# Altium integrated library CDE_Library.IntLib: 6171 symbols (part 14 of 25)
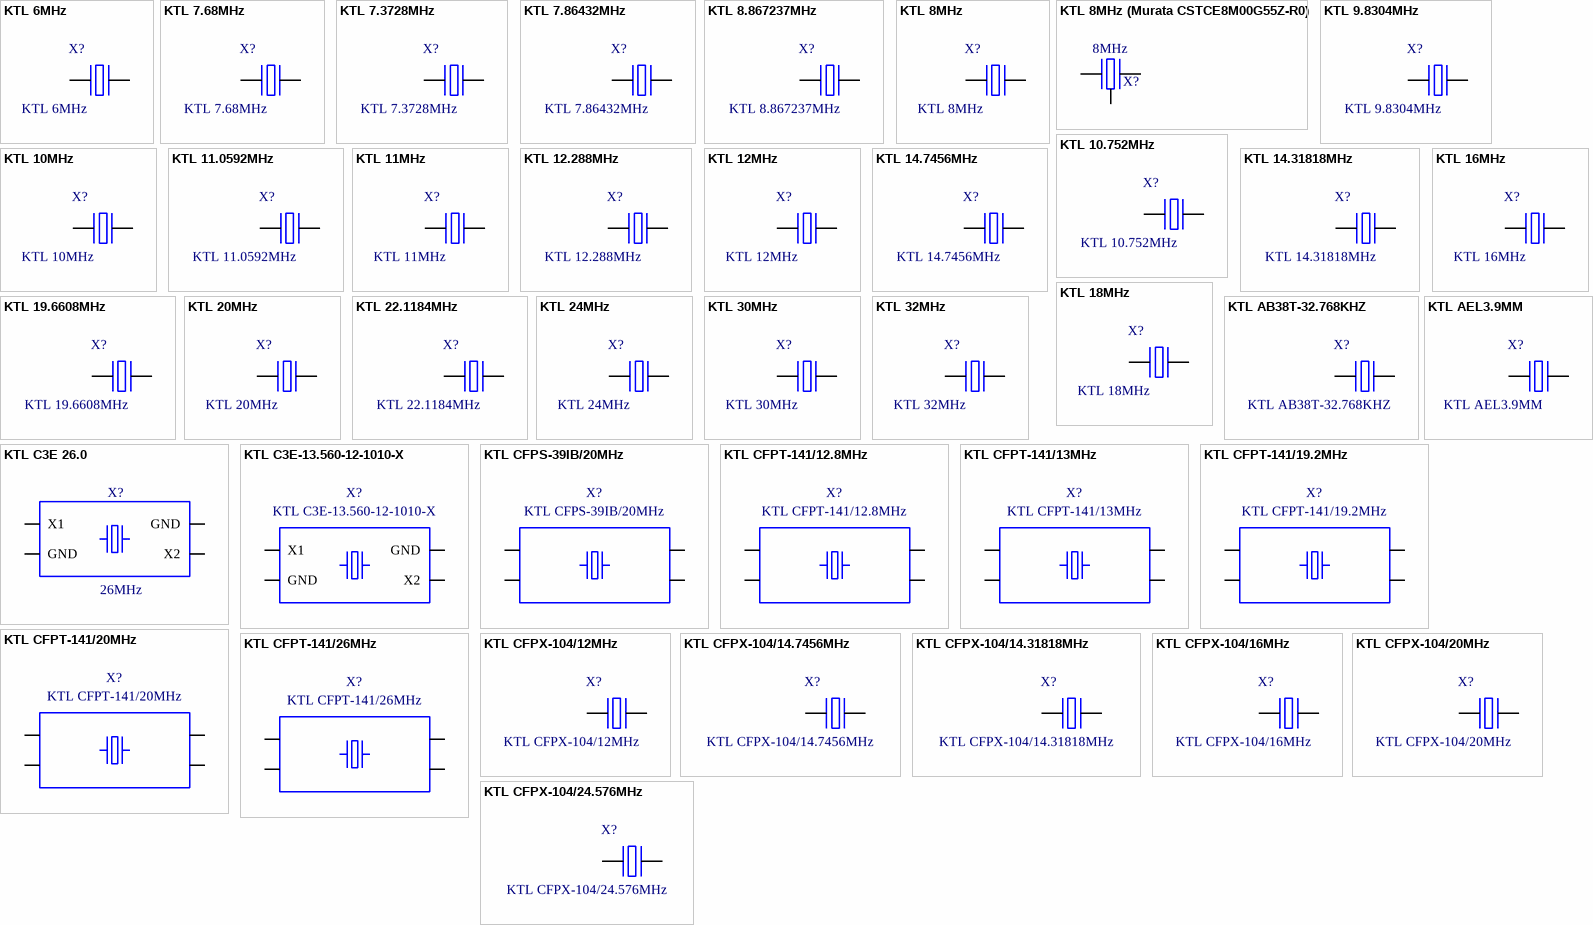
[diagram p270: symbols KTL 6MHz to KTL CFPX-104/24.576MHz]

## KTL CFPX-104/20MHz
designator X?
smd kristal CFPX-104/20MHz; Part Number: KTL CFPX-104/20MHz; Component Kind: Standard; Component Type: Standard; Designator: KTL CFPX-104/20MHz; Footprint: smd kristal CFPX-104; Library Reference: KTL CFPX-104/20MHz; Pin Count: 2
footprint smd kristal CFPX-104
pins: 1, 3

## KTL CFPX-104/24.576MHz
designator X?
smd kristal CFPX-104/24.576MHz; Part Number: KTL CFPX-104/24.576MHz; Component Kind: Standard; Component Type: Standard; Designator: KTL CFPX-104/24.576MHz; Footprint: smd kristal CFPX-104; Library Reference: KTL CFPX-104/24.576MHz; Pin Count: 2
footprint smd kristal CFPX-104
pins: 1, 3

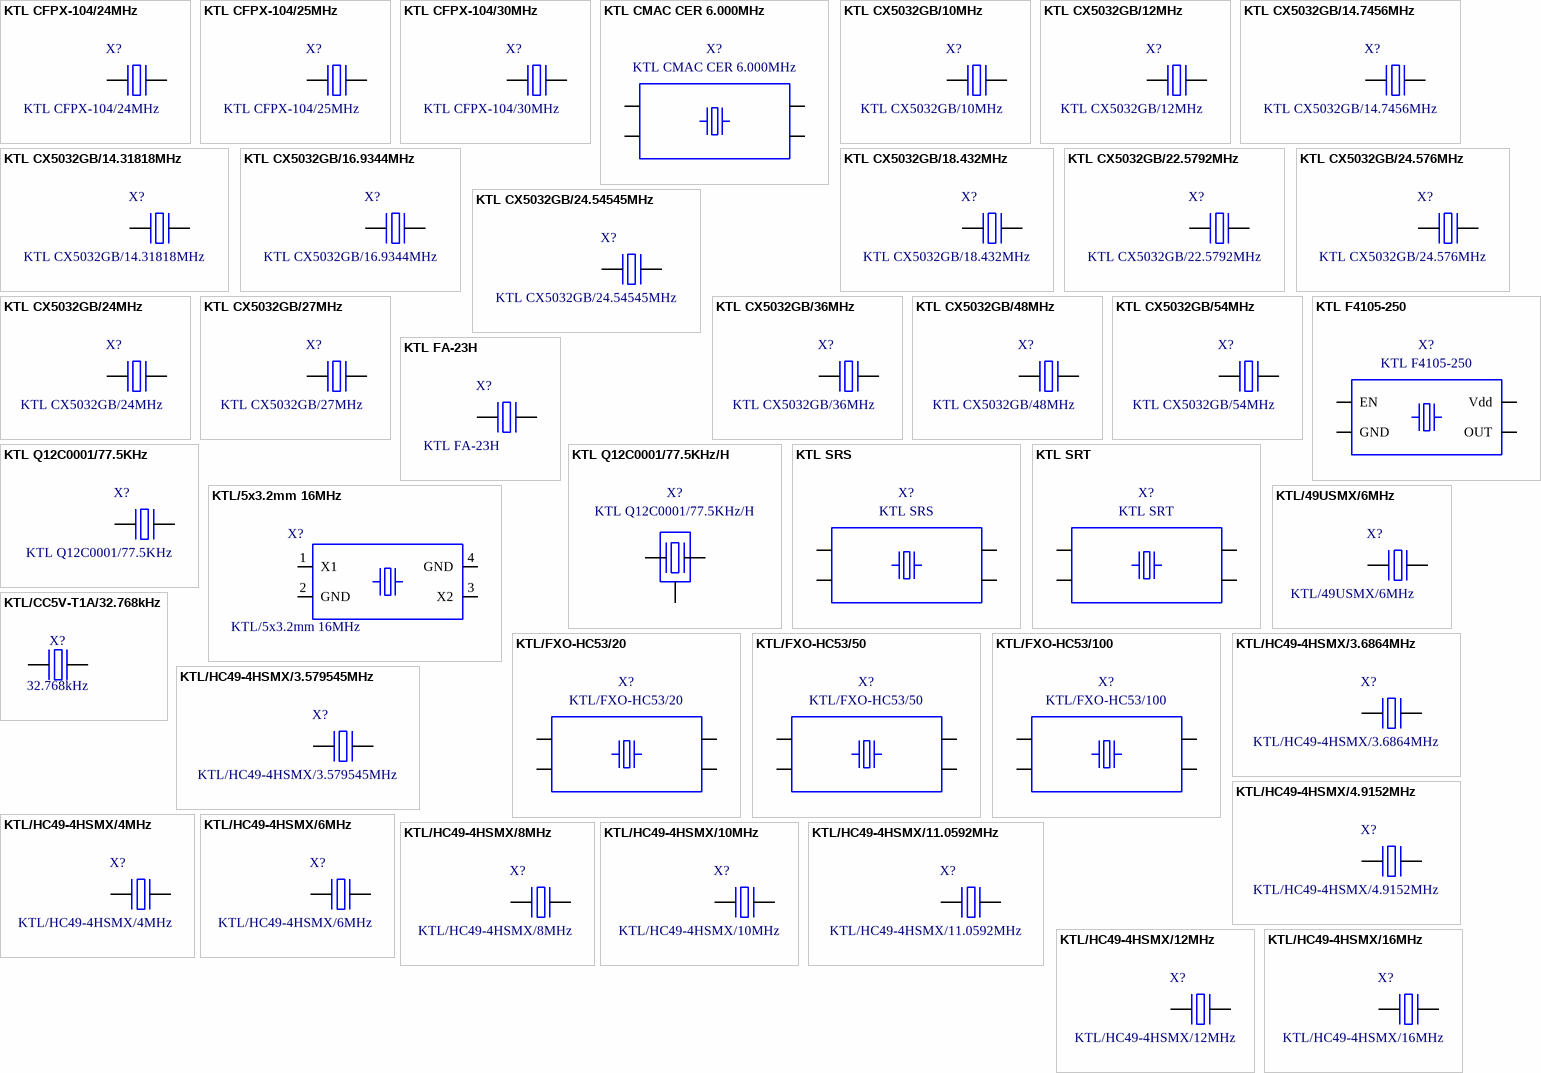
[diagram p135: symbols KTL CFPX-104/24MHz to KTL/HC49-4HSMX/16MHz]

## KTL CFPX-104/24MHz
designator X?
smd kristal CFPX-104/24MHz; Part Number: KTL CFPX-104/24MHz; Component Kind: Standard; Component Type: Standard; Designator: KTL CFPX-104/24MHz; Footprint: smd kristal CFPX-104; Library Reference: KTL CFPX-104/24MHz; Pin Count: 2
footprint smd kristal CFPX-104
pins: 1, 3

## KTL CFPX-104/25MHz
designator X?
smd kristal CFPX-104/25MHz; Part Number: KTL CFPX-104/25MHz; Component Kind: Standard; Component Type: Standard; Designator: KTL CFPX-104/25MHz; Footprint: smd kristal CFPX-104; Library Reference: KTL CFPX-104/25MHz; Pin Count: 2
footprint smd kristal CFPX-104
pins: 1, 3

## KTL CFPX-104/30MHz
designator X?
smd kristal CFPX-104/30MHz; Part Number: KTL CFPX-104/30MHz; Component Kind: Standard; Component Type: Standard; Designator: KTL CFPX-104/30MHz; Footprint: smd kristal CFPX-104; Library Reference: KTL CFPX-104/30MHz; Pin Count: 2
footprint smd kristal CFPX-104
pins: 1, 3

## KTL CMAC CER 6.000MHz
designator X?
smd kristal CMAC CER 5x7mm
footprint smd kristal 5x7mm (CMAC CERxx)
pins: 1 VCXO, 2 GND, 3 OUT, 4 Vs

## KTL CX5032GB/10MHz
designator X?
kristal CX5032GB, 10MHz
footprint smd kristal CX-53F
pins: 1, 2

## KTL CX5032GB/12MHz
designator X?
kristal CX5032GB, 12MHz; Part Number: KTL CX5032GB/12MHz; Component Kind: Standard; Component Type: Standard; Designator: KTL CX5032GB/12MHz; Footprint: smd kristal CX-53F; Library Reference: KTL CX5032GB/12MHz; Pin Count: 2
footprint smd kristal CX-53F
pins: 1, 2

## KTL CX5032GB/14.7456MHz
designator X?
kristal CX5032GB, 14.7456MHz; Part Number: KTL CX5032GB/14.7456MHz; Component Kind: Standard; Component Type: Standard; Designator: KTL CX5032GB/14.7456MHz; Footprint: smd kristal CX-53F; Library Reference: KTL CX5032GB/14.7456MHz; Pin Count: 2
footprint smd kristal CX-53F
pins: 1, 2

## KTL CX5032GB/14.31818MHz
designator X?
kristal CX5032GB, 14.31818MHz; Part Number: KTL CX5032GB/14.31818MHz; Component Kind: Standard; Component Type: Standard; Designator: KTL CX5032GB/14.31818MHz; Footprint: smd kristal CX-53F; Library Reference: KTL CX5032GB/14.31818MHz; Pin Count: 2
footprint smd kristal CX-53F
pins: 1, 2

## KTL CX5032GB/16.9344MHz
designator X?
kristal CX5032GB, 16.9344MHz; Part Number: KTL CX5032GB/16.9344MHz; Component Kind: Standard; Component Type: Standard; Designator: KTL CX5032GB/16.9344MHz; Footprint: smd kristal CX-53F; Library Reference: KTL CX5032GB/16.9344MHz; Pin Count: 2
footprint smd kristal CX-53F
pins: 1, 2

## KTL CX5032GB/18.432MHz
designator X?
kristal CX5032GB, 18.432MHz; Part Number: KTL CX5032GB/18.432MHz; Component Kind: Standard; Component Type: Standard; Designator: KTL CX5032GB/18.432MHz; Footprint: smd kristal CX-53F; Library Reference: KTL CX5032GB/18.432MHz; Pin Count: 2
footprint smd kristal CX-53F
pins: 1, 2

## KTL CX5032GB/22.5792MHz
designator X?
kristal CX5032GB, 22.5792MHz; Part Number: KTL CX5032GB/22.5792MHz; Component Kind: Standard; Component Type: Standard; Designator: KTL CX5032GB/22.5792MHz; Footprint: smd kristal CX-53F; Library Reference: KTL CX5032GB/22.5792MHz; Pin Count: 2
footprint smd kristal CX-53F
pins: 1, 2

## KTL CX5032GB/24.576MHz
designator X?
kristal CX5032GB, 24.576MHz; Part Number: KTL CX5032GB/24.576MHz; Component Kind: Standard; Component Type: Standard; Designator: KTL CX5032GB/24.576MHz; Footprint: smd kristal CX-53F; Library Reference: KTL CX5032GB/24.576MHz; Pin Count: 2
footprint smd kristal CX-53F
pins: 1, 2

## KTL CX5032GB/24.54545MHz
designator X?
kristal CX5032GB, 24.54545MHz; Part Number: KTL CX5032GB/24.54545MHz; Component Kind: Standard; Component Type: Standard; Designator: KTL CX5032GB/24.54545MHz; Footprint: smd kristal CX-53F; Library Reference: KTL CX5032GB/24.54545MHz; Pin Count: 2
footprint smd kristal CX-53F
pins: 1, 2

## KTL CX5032GB/24MHz
designator X?
kristal CX5032GB, 24MHz; Part Number: KTL CX5032GB/24MHz; Component Kind: Standard; Component Type: Standard; Designator: KTL CX5032GB/24MHz; Footprint: smd kristal CX-53F; Library Reference: KTL CX5032GB/24MHz; Pin Count: 2
footprint smd kristal CX-53F
pins: 1, 2

## KTL CX5032GB/27MHz
designator X?
kristal CX5032GB, 27MHz; Part Number: KTL CX5032GB/27MHz; Component Kind: Standard; Component Type: Standard; Designator: KTL CX5032GB/27MHz; Footprint: smd kristal CX-53F; Library Reference: KTL CX5032GB/27MHz; Pin Count: 2
footprint smd kristal CX-53F
pins: 1, 2

## KTL CX5032GB/36MHz
designator X?
kristal CX5032GB, 36MHz; Part Number: KTL CX5032GB/36MHz; Component Kind: Standard; Component Type: Standard; Designator: KTL CX5032GB/36MHz; Footprint: smd kristal CX-53F; Library Reference: KTL CX5032GB/36MHz; Pin Count: 2
footprint smd kristal CX-53F
pins: 1, 2

## KTL CX5032GB/48MHz
designator X?
kristal CX5032GB, 48MHz; Part Number: KTL CX5032GB/48MHz; Component Kind: Standard; Component Type: Standard; Designator: KTL CX5032GB/48MHz; Footprint: smd kristal CX-53F; Library Reference: KTL CX5032GB/48MHz; Pin Count: 2
footprint smd kristal CX-53F
pins: 1, 2

## KTL CX5032GB/54MHz
designator X?
kristal CX5032GB, 54MHz; Part Number: KTL CX5032GB/54MHz; Component Kind: Standard; Component Type: Standard; Designator: KTL CX5032GB/54MHz; Footprint: smd kristal CX-53F; Library Reference: KTL CX5032GB/54MHz; Pin Count: 2
footprint smd kristal CX-53F
pins: 1, 2

## KTL F4105-250
designator X?
smd kristaloscillator Fox Electronics F4100 series 25MHz
footprint smd KTL 7.5x5
pins: 1 EN, 2 GND, 3 OUT, 4 Vdd

## KTL FA-23H
designator X?
thin smd high-stability crystal unit
footprint smd kristal 1
pins: 1, 3

## KTL Q12C0001/77.5KHz
designator X?
kristal Epson Toyocom, type Q12C0001, 77.5KHz
footprint kristal (Epson Toyocom C2 type)
pins: 1, 2

## KTL Q12C0001/77.5KHz/H
designator X?
kristal Epson Toyocom, type Q12C0001, 77.5KHz, liggend
footprint kristal (Epson Toyocom C2 type - liggend)
pins: 1, 2, 3

## KTL SRS
designator X?
Suntsu SRS series kristal; Part Number: KTL SRS; Component Kind: Standard; Component Type: Standard; Designator: KTL SRS; Footprint: smd kristal 4 (SUNTSU SRS); Library Reference: KTL SRS; Pin Count: 4
footprint smd kristal 4 (SUNTSU SRS)
pins: 1 Tri-State, 2 GND, 3 Vout, 4 Vin

## KTL SRT
designator X?
Suntsu SRT series kristal; Part Number: KTL SRT; Component Kind: Standard; Component Type: Standard; Designator: KTL SRT; Footprint: smd kristal 5 (SUNTSU SRT); Library Reference: KTL SRT; Pin Count: 4
footprint smd kristal 5 (SUNTSU SRT)
pins: 1 Tri-State, 2 GND, 3 Vout, 4 Vin

## KTL/5x3.2mm 16MHz
designator X?
TXC Xtal 16.000 MHz, 5x3.2mm; Part Number: KTL/5x3.2mm 16MHz; Component Kind: Standard; Component Type: Standard; Designator: KTL/5x3.2mm 16MHz; Footprint: smd KTL 5x3.2; Library Reference: KTL/5x3.2mm 16MHz; Pin Count: 4
footprint smd KTL 5x3.2
pins: 1 X1, 2 GND, 3 X2, 4 GND

## KTL/49USMX/6MHz
designator X?
kristal 6MHz, verpakking 49USMX
footprint smd HC49/4HSMX
pins: 1, 2

## KTL/CC5V-T1A/32.768kHz
designator X?, comment 32.768kHz
kristal 32.768kHz
footprint smd CC5V-T1A (kristal smd)
pins: 1, 2

## KTL/FXO-HC53/20
designator X?
Xpresso Xtal oscillator 20 MHz
footprint smd kristal 5 (XpressO FXO-HC53 series)
pins: 1 E/D, 2 GND, 3 Out, 4 VDD

## KTL/FXO-HC53/50
designator X?
Xpresso Xtal oscillator 50 MHz; Part Number: KTL/FXO-HC53/50; Component Kind: Standard; Component Type: Standard; Designator: KTL/FXO-HC53/50; Footprint: smd kristal 5 (XpressO FXO-HC53 series); Library Reference: KTL/FXO-HC53/50; Pin Count: 4
footprint smd kristal 5 (XpressO FXO-HC53 series)
pins: 1 E/D, 2 GND, 3 Out, 4 VDD

## KTL/FXO-HC53/100
designator X?
Xpresso Xtal oscillator 100 MHz; Part Number: KTL/FXO-HC53/100; Component Kind: Standard; Component Type: Standard; Designator: KTL/FXO-HC53/100; Footprint: smd kristal 5 (XpressO FXO-HC53 series); Library Reference: KTL/FXO-HC53/100; Pin Count: 4
footprint smd kristal 5 (XpressO FXO-HC53 series)
pins: 1 E/D, 2 GND, 3 Out, 4 VDD

## KTL/HC49-4HSMX/3.6864MHz
designator X?
kristal 3.6864MHz, verpakking HC49-4HSMX; Part Number: KTL/HC49-4HSMX/3.6864MHz; Component Kind: Standard; Component Type: Standard; Designator: KTL/HC49-4HSMX/3.6864MHz; Footprint: smd HC49/4HSMX; Library Reference: KTL/HC49-4HSMX/3.6864MHz; Pin Count: 2
footprint smd HC49/4HSMX
pins: 1, 2

## KTL/HC49-4HSMX/3.579545MHz
designator X?
kristal 3.579545MHz, verpakking HC49-4HSMX; Part Number: KTL/HC49-4HSMX/3.579545MHz; Component Kind: Standard; Component Type: Standard; Designator: KTL/HC49-4HSMX/3.579545MHz; Footprint: smd HC49/4HSMX; Library Reference: KTL/HC49-4HSMX/3.579545MHz; Pin Count: 2
footprint smd HC49/4HSMX
pins: 1, 2

## KTL/HC49-4HSMX/4.9152MHz
designator X?
kristal 4.9152MHz, verpakking HC49-4HSMX; Part Number: KTL/HC49-4HSMX/4.9152MHz; Component Kind: Standard; Component Type: Standard; Designator: KTL/HC49-4HSMX/4.9152MHz; Footprint: smd HC49/4HSMX; Library Reference: KTL/HC49-4HSMX/4.9152MHz; Pin Count: 2
footprint smd HC49/4HSMX
pins: 1, 2

## KTL/HC49-4HSMX/4MHz
designator X?
kristal 4MHz, verpakking HC49-4HSMX; Part Number: KTL/HC49-4HSMX/4MHz; Component Kind: Standard; Component Type: Standard; Designator: KTL/HC49-4HSMX/4MHz; Footprint: smd HC49/4HSMX; Library Reference: KTL/HC49-4HSMX/4MHz; Pin Count: 2
footprint smd HC49/4HSMX
pins: 1, 2

## KTL/HC49-4HSMX/6MHz
designator X?
kristal 6MHz, verpakking HC49-4HSMX; Part Number: KTL/HC49-4HSMX/6MHz; Component Kind: Standard; Component Type: Standard; Designator: KTL/HC49-4HSMX/6MHz; Footprint: smd HC49/4HSMX; Library Reference: KTL/HC49-4HSMX/6MHz; Pin Count: 2
footprint smd HC49/4HSMX
pins: 1, 2

## KTL/HC49-4HSMX/8MHz
designator X?
kristal 8MHz, verpakking HC49-4HSMX; Part Number: KTL/HC49-4HSMX/8MHz; Component Kind: Standard; Component Type: Standard; Designator: KTL/HC49-4HSMX/8MHz; Footprint: smd HC49/4HSMX; Library Reference: KTL/HC49-4HSMX/8MHz; Pin Count: 2
footprint smd HC49/4HSMX
pins: 1, 2

## KTL/HC49-4HSMX/10MHz
designator X?
kristal 10MHz, verpakking HC49-4HSMX
footprint smd HC49/4HSMX
pins: 1, 2

## KTL/HC49-4HSMX/11.0592MHz
designator X?
kristal 11.0592MHz, verpakking HC49-4HSMX; Part Number: KTL/HC49-4HSMX/11.0592MHz; Component Kind: Standard; Component Type: Standard; Designator: KTL/HC49-4HSMX/11.0592MHz; Footprint: smd HC49/4HSMX; Library Reference: KTL/HC49-4HSMX/11.0592MHz; Pin Count: 2
footprint smd HC49/4HSMX
pins: 1, 2

## KTL/HC49-4HSMX/12MHz
designator X?
kristal 12MHz, verpakking HC49-4HSMX; Part Number: KTL/HC49-4HSMX/12MHz; Component Kind: Standard; Component Type: Standard; Designator: KTL/HC49-4HSMX/12MHz; Footprint: smd HC49/4HSMX; Library Reference: KTL/HC49-4HSMX/12MHz; Pin Count: 2
footprint smd HC49/4HSMX
pins: 1, 2

## KTL/HC49-4HSMX/16MHz
designator X?
kristal 16MHz, verpakking HC49-4HSMX; Part Number: KTL/HC49-4HSMX/16MHz; Component Kind: Standard; Component Type: Standard; Designator: KTL/HC49-4HSMX/16MHz; Footprint: smd HC49/4HSMX; Library Reference: KTL/HC49-4HSMX/16MHz; Pin Count: 2
footprint smd HC49/4HSMX
pins: 1, 2

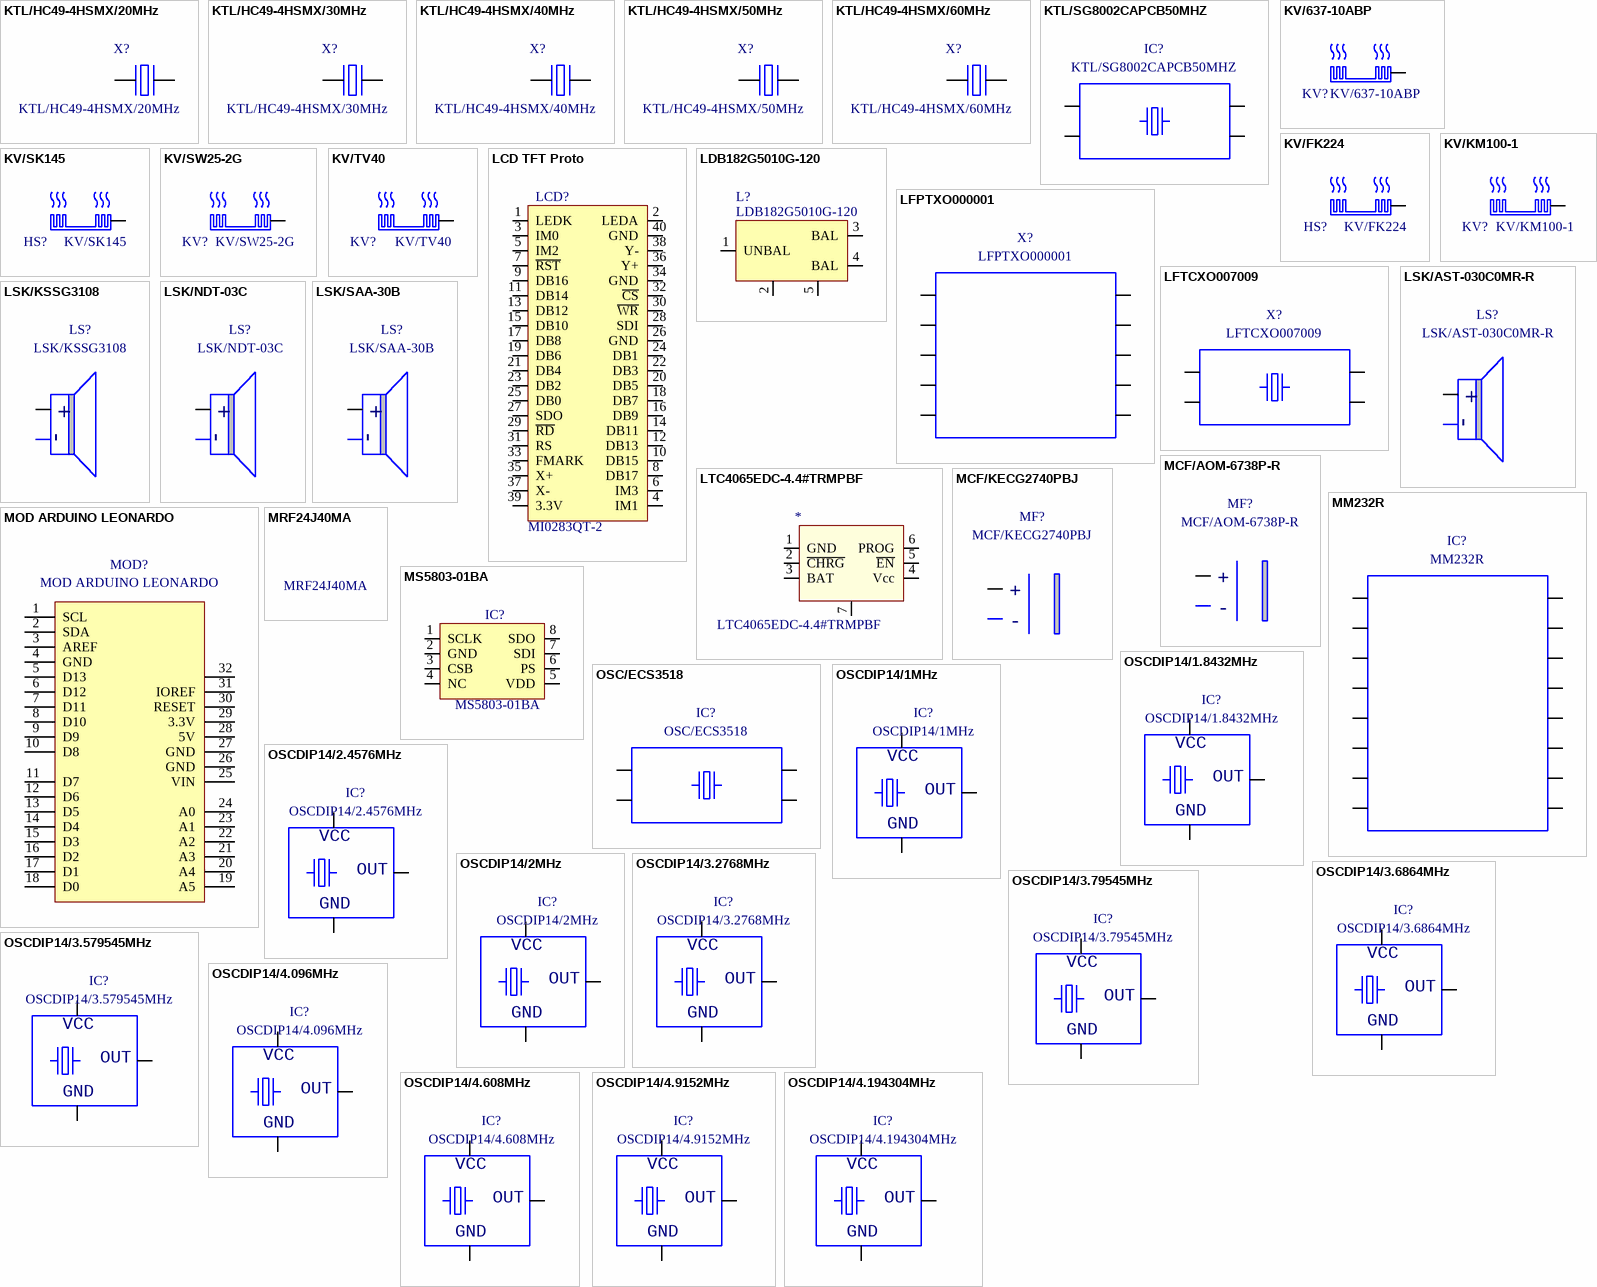
[diagram p136: symbols KTL/HC49-4HSMX/20MHz to OSCDIP14/4.194304MHz]

## KTL/HC49-4HSMX/20MHz
designator X?
kristal 20MHz, verpakking HC49-4HSMX; Part Number: KTL/HC49-4HSMX/20MHz; Component Kind: Standard; Component Type: Standard; Designator: KTL/HC49-4HSMX/20MHz; Footprint: smd HC49/4HSMX; Library Reference: KTL/HC49-4HSMX/20MHz; Pin Count: 2
footprint smd HC49/4HSMX
pins: 1, 2

## KTL/HC49-4HSMX/30MHz
designator X?
kristal 30MHz, verpakking HC49-4HSMX; Part Number: KTL/HC49-4HSMX/30MHz; Component Kind: Standard; Component Type: Standard; Designator: KTL/HC49-4HSMX/30MHz; Footprint: smd HC49/4HSMX; Library Reference: KTL/HC49-4HSMX/30MHz; Pin Count: 2
footprint smd HC49/4HSMX
pins: 1, 2

## KTL/HC49-4HSMX/40MHz
designator X?
kristal 40MHz, verpakking HC49-4HSMX; Part Number: KTL/HC49-4HSMX/40MHz; Component Kind: Standard; Component Type: Standard; Designator: KTL/HC49-4HSMX/40MHz; Footprint: smd HC49/4HSMX; Library Reference: KTL/HC49-4HSMX/40MHz; Pin Count: 2
footprint smd HC49/4HSMX
pins: 1, 2

## KTL/HC49-4HSMX/50MHz
designator X?
kristal 50MHz, verpakking HC49-4HSMX; Part Number: KTL/HC49-4HSMX/50MHz; Component Kind: Standard; Component Type: Standard; Designator: KTL/HC49-4HSMX/50MHz; Footprint: smd HC49/4HSMX; Library Reference: KTL/HC49-4HSMX/50MHz; Pin Count: 2
footprint smd HC49/4HSMX
pins: 1, 2

## KTL/HC49-4HSMX/60MHz
designator X?
kristal 60MHz, verpakking HC49-4HSMX; Part Number: KTL/HC49-4HSMX/60MHz; Component Kind: Standard; Component Type: Standard; Designator: KTL/HC49-4HSMX/60MHz; Footprint: smd HC49/4HSMX; Library Reference: KTL/HC49-4HSMX/60MHz; Pin Count: 2
footprint smd HC49/4HSMX
pins: 1, 2

## KTL/SG8002CAPCB50MHZ
designator IC?
kristal smd SG8002CA, 50MHZ
footprint smd kristal 3
pins: 1 OE, 2 GND, 3 OUT, 4 VDD

## KV/637-10ABP
designator KV?
koelvin Wakefield Engineering 637-10ABP
footprint koelvin TO-220/126 (Wkefld.Eng.637-10ABP)
pins: 1

## KV/FK224
designator HS?
koelvin Fisher Elektronik FK224
footprint koelvin TO-220/126 (Fischer Elek. FK224)
pins: 1

## KV/KM100-1
designator KV?
Koelvin Aavid Thernalloy TO-247 2.9°c/W KM100-1
footprint koelvin TO-247 2.9°c/W (Aavid Thermalloy KM100-1)
pins: 1

## KV/SK145
designator HS?
koelvin Fisher Elektronik SK145
footprint koelvin TO-220 (Fischer Elek. SK145)
pins: 1

## KV/SW25-2G
designator KV?
koelvin Aavid Thermalloy SW25-2G
footprint koelvin TO-220/218/247 (Aavid Thermalloy SW25-2G)
pins: 1

## KV/TV40
designator KV?
koelvin AAVID THERMALLOY TV40
footprint koelvin TO-220/126 (Redpoint 437914 TV40)
pins: 1

## LCD TFT Proto
designator LCD?, comment MI0283QT-2
MikroElektronica TFT Proto board (MI0283QT-2 )
footprint LCD TFT Proto (MikroE TFT proto development board)
pins: 1 LEDK, 2 LEDA, 3 IM0, 4 IM1, 5 IM2, 6 IM3, 7 ~{RST}, 8 DB17, 9 DB16, 10 DB15, 11 DB14, 12 DB13, 13 DB12, 14 DB11, 15 DB10, 16 DB9, 17 DB8, 18 DB7, 19 DB6, 20 DB5, 21 DB4, 22 DB3, 23 DB2, 24 DB1, 25 DB0, 26 GND, 27 SDO, 28 SDI, 29 ~{RD}, 30 ~{WR}, 31 RS, 32 ~{CS}, 33 FMARK, 34 GND, 35 X+, 36 Y+, 37 X-, 38 Y-, 39 3.3V, 40 GND

## LDB182G5010G-120
designator L?
Chip multilayer Hybrid Balun
footprint smd LDB18
pins: 1 UNBAL, 2, 3 BAL, 4 BAL, 5

## LFPTXO000001
designator X?
smd kristaloscillator LFPTXO000001 10MHz
footprint smd kristal CFPT-9000
pins: 1 VREF, 2 NC, 3 DCCPLDO, 4 GND, 5 OUT, 6 NC, 7 NC, 8 TSC, 9 +VS, 10 VTGC

## LFTCXO007009
designator X?
smd kristaloscillator LFTCXO007009  26MHz
footprint smd kristal CFPX-104
pins: 1, 2 GND, 3 OUT, 4 +VS

## LSK/AST-030C0MR-R
designator LS?
luidspreker, Projects Unlimited, AST-030C0MR-R
footprint LSK/AST-030C0MR-R (Projects Unlimited)
pins: 1, 2
text: +; -

## LSK/KSSG3108
designator LS?
luidspreker, Kingstate KSSG3108
footprint LSK/KSSG3108 (Kingstate)
pins: 1, 2
text: +; -

## LSK/NDT-03C
designator LS?
luidspreker smd, Star Micronics, NDT-03C
footprint smd luidspreker NDT-03C (Star Micronics)
pins: 1, 2
text: +; -

## LSK/SAA-30B
designator LS?
luidspreker, Star Micronics, SAA-30B
footprint LSK/SAA-30B (Star Micronics)
pins: 1, 2
text: +; -

## LTC4065EDC-4.4#TRMPBF
designator *
Part Number: LTC4065EDC-4.4#TRMPBF; Component Kind: Standard; Component Type: Standard; Designator: LTC4065EDC-4.4#TRMPBF; Footprint: smd DFN/6 (2x2mm p0.50mm); Library Reference: LTC4065EDC-4.4#TRMPBF; Pin Count: 7
footprint smd DFN/6 (2x2mm p0.50mm)
pins: 1 GND, 2 ~{CHRG}, 3 BAT, 4 Vcc, 5 ~{EN}, 6 PROG, 7 GND

## MCF/AOM-6738P-R
designator MF?
microfoon, Projects Unlimited, AOM-6738P-R
footprint microfoon (AOM-6738P-R)
pins: 1, 2
text: +; -

## MCF/KECG2740PBJ
designator MF?
microfoon, Kingstate KECG2740PBJ
footprint microfoon KECG2740PBJ (Kingstate)
pins: 1, 2
text: +; -

## MM232R
designator IC?
usb module
footprint usbmodule MM232R (FTDI)
pins: 1 SHLD, 2 VCC, 3 VCCIO, 4 VCC30, 5 TXD, 6 RTS#, 7 RXD, 8 CTS#, 9 CLK12M, 10 SLEEP#, 11 RESET#, 12 PWREN, 13 GND, 14 VCC50, 15 USBPWR, 16 SHLD

## MOD ARDUINO LEONARDO
designator MOD?
module Arduino Leonardo
footprint MOD ARDUINO LEONARDO
pins: 1 SCL, 2 SDA, 3 AREF, 4 GND (power), 5 D13, 6 D12, 7 D11, 8 D10, 9 D9, 10 D8, 11 D7, 12 D6, 13 D5, 14 D4, 15 D3, 16 D2, 17 D1, 18 D0, 19 A5, 20 A4, 21 A3, 22 A2, 23 A1, 24 A0, 25 VIN, 26 GND (power), 27 GND (power), 28 5V (power), 29 3.3V (power), 30 RESET, 31 IOREF, 32

## MRF24J40MA
designator ?
Microchip Zigbee transceiver module

## MS5803-01BA
designator IC?
Miniature Variometer Module
footprint SMD MS5803-01BA (Miniature Variometer Module)
pins: 1 SCLK, 2 GND, 3 CSB, 4 NC, 5 VDD, 6 PS, 7 SDI, 8 SDO

## OSC/ECS3518
designator IC?
klokoscillator smd, ECS3518
footprint smd kristal 2
pins: 1 3-ST, 2 GND, 3 OUT, 4 VCC

## OSCDIP14/1.8432MHz
designator IC?
kristaloscillator, 1 uitgang, DIP14-4p, 1.8432MHz
footprint kristalosc DIP14-4p
pins: 2, 3, 4
text: VCC; OUT; GND

## OSCDIP14/1MHz
designator IC?
kristaloscillator, 1 uitgang, DIP14-4p, 1MHz; Part Number: OSCDIP14/1MHz; Component Kind: Standard; Component Type: Standard; Designator: OSCDIP14/1MHz; Footprint: kristalosc DIP14-4p; Library Reference: OSCDIP14/1MHz; Pin Count: 3
footprint kristalosc DIP14-4p
pins: 2, 3, 4
text: VCC; OUT; GND

## OSCDIP14/2.4576MHz
designator IC?
kristaloscillator, 1 uitgang, DIP14-4p, 2.4576MHz; Part Number: OSCDIP14/2.4576MHz; Component Kind: Standard; Component Type: Standard; Designator: OSCDIP14/2.4576MHz; Footprint: kristalosc DIP14-4p; Library Reference: OSCDIP14/2.4576MHz; Pin Count: 3
footprint kristalosc DIP14-4p
pins: 2, 3, 4
text: VCC; OUT; GND

## OSCDIP14/2MHz
designator IC?
kristaloscillator, 1 uitgang, DIP14-4p, 2MHz; Part Number: OSCDIP14/2MHz; Component Kind: Standard; Component Type: Standard; Designator: OSCDIP14/2MHz; Footprint: kristalosc DIP14-4p; Library Reference: OSCDIP14/2MHz; Pin Count: 3
footprint kristalosc DIP14-4p
pins: 2, 3, 4
text: VCC; OUT; GND

## OSCDIP14/3.2768MHz
designator IC?
kristaloscillator, 1 uitgang, DIP14-4p, 3.2768MHz; Part Number: OSCDIP14/3.2768MHz; Component Kind: Standard; Component Type: Standard; Designator: OSCDIP14/3.2768MHz; Footprint: kristalosc DIP14-4p; Library Reference: OSCDIP14/3.2768MHz; Pin Count: 3
footprint kristalosc DIP14-4p
pins: 2, 3, 4
text: VCC; OUT; GND

## OSCDIP14/3.6864MHz
designator IC?
kristaloscillator, 1 uitgang, DIP14-4p, 3.6864MHz; Part Number: OSCDIP14/3.6864MHz; Component Kind: Standard; Component Type: Standard; Designator: OSCDIP14/3.6864MHz; Footprint: kristalosc DIP14-4p; Library Reference: OSCDIP14/3.6864MHz; Pin Count: 3
footprint kristalosc DIP14-4p
pins: 2, 3, 4
text: VCC; OUT; GND

## OSCDIP14/3.79545MHz
designator IC?
kristaloscillator, 1 uitgang, DIP14-4p, 3.79545MHz; Part Number: OSCDIP14/3.79545MHz; Component Kind: Standard; Component Type: Standard; Designator: OSCDIP14/3.79545MHz; Footprint: kristalosc DIP14-4p; Library Reference: OSCDIP14/3.79545MHz; Pin Count: 3
footprint kristalosc DIP14-4p
pins: 2, 3, 4
text: VCC; OUT; GND

## OSCDIP14/3.579545MHz
designator IC?
kristaloscillator, 1 uitgang, DIP14-4p, 3.579545MHz; Part Number: OSCDIP14/3.579545MHz; Component Kind: Standard; Component Type: Standard; Designator: OSCDIP14/3.579545MHz; Footprint: kristalosc DIP14-4p; Library Reference: OSCDIP14/3.579545MHz; Pin Count: 3
footprint kristalosc DIP14-4p
pins: 2, 3, 4
text: VCC; OUT; GND

## OSCDIP14/4.096MHz
designator IC?
kristaloscillator, 1 uitgang, DIP14-4p, 4.096MHz; Part Number: OSCDIP14/4.096MHz; Component Kind: Standard; Component Type: Standard; Designator: OSCDIP14/4.096MHz; Footprint: kristalosc DIP14-4p; Library Reference: OSCDIP14/4.096MHz; Pin Count: 3
footprint kristalosc DIP14-4p
pins: 2, 3, 4
text: VCC; OUT; GND

## OSCDIP14/4.608MHz
designator IC?
kristaloscillator, 1 uitgang, DIP14-4p, 4.608MHz; Part Number: OSCDIP14/4.608MHz; Component Kind: Standard; Component Type: Standard; Designator: OSCDIP14/4.608MHz; Footprint: kristalosc DIP14-4p; Library Reference: OSCDIP14/4.608MHz; Pin Count: 3
footprint kristalosc DIP14-4p
pins: 2, 3, 4
text: VCC; OUT; GND

## OSCDIP14/4.9152MHz
designator IC?
kristaloscillator, 1 uitgang, DIP14-4p, 4.9152MHz; Part Number: OSCDIP14/4.9152MHz; Component Kind: Standard; Component Type: Standard; Designator: OSCDIP14/4.9152MHz; Footprint: kristalosc DIP14-4p; Library Reference: OSCDIP14/4.9152MHz; Pin Count: 3
footprint kristalosc DIP14-4p
pins: 2, 3, 4
text: VCC; OUT; GND

## OSCDIP14/4.194304MHz
designator IC?
kristaloscillator, 1 uitgang, DIP14-4p, 4.194304MHz; Part Number: OSCDIP14/4.194304MHz; Component Kind: Standard; Component Type: Standard; Designator: OSCDIP14/4.194304MHz; Footprint: kristalosc DIP14-4p; Library Reference: OSCDIP14/4.194304MHz; Pin Count: 3
footprint kristalosc DIP14-4p
pins: 2, 3, 4
text: VCC; OUT; GND

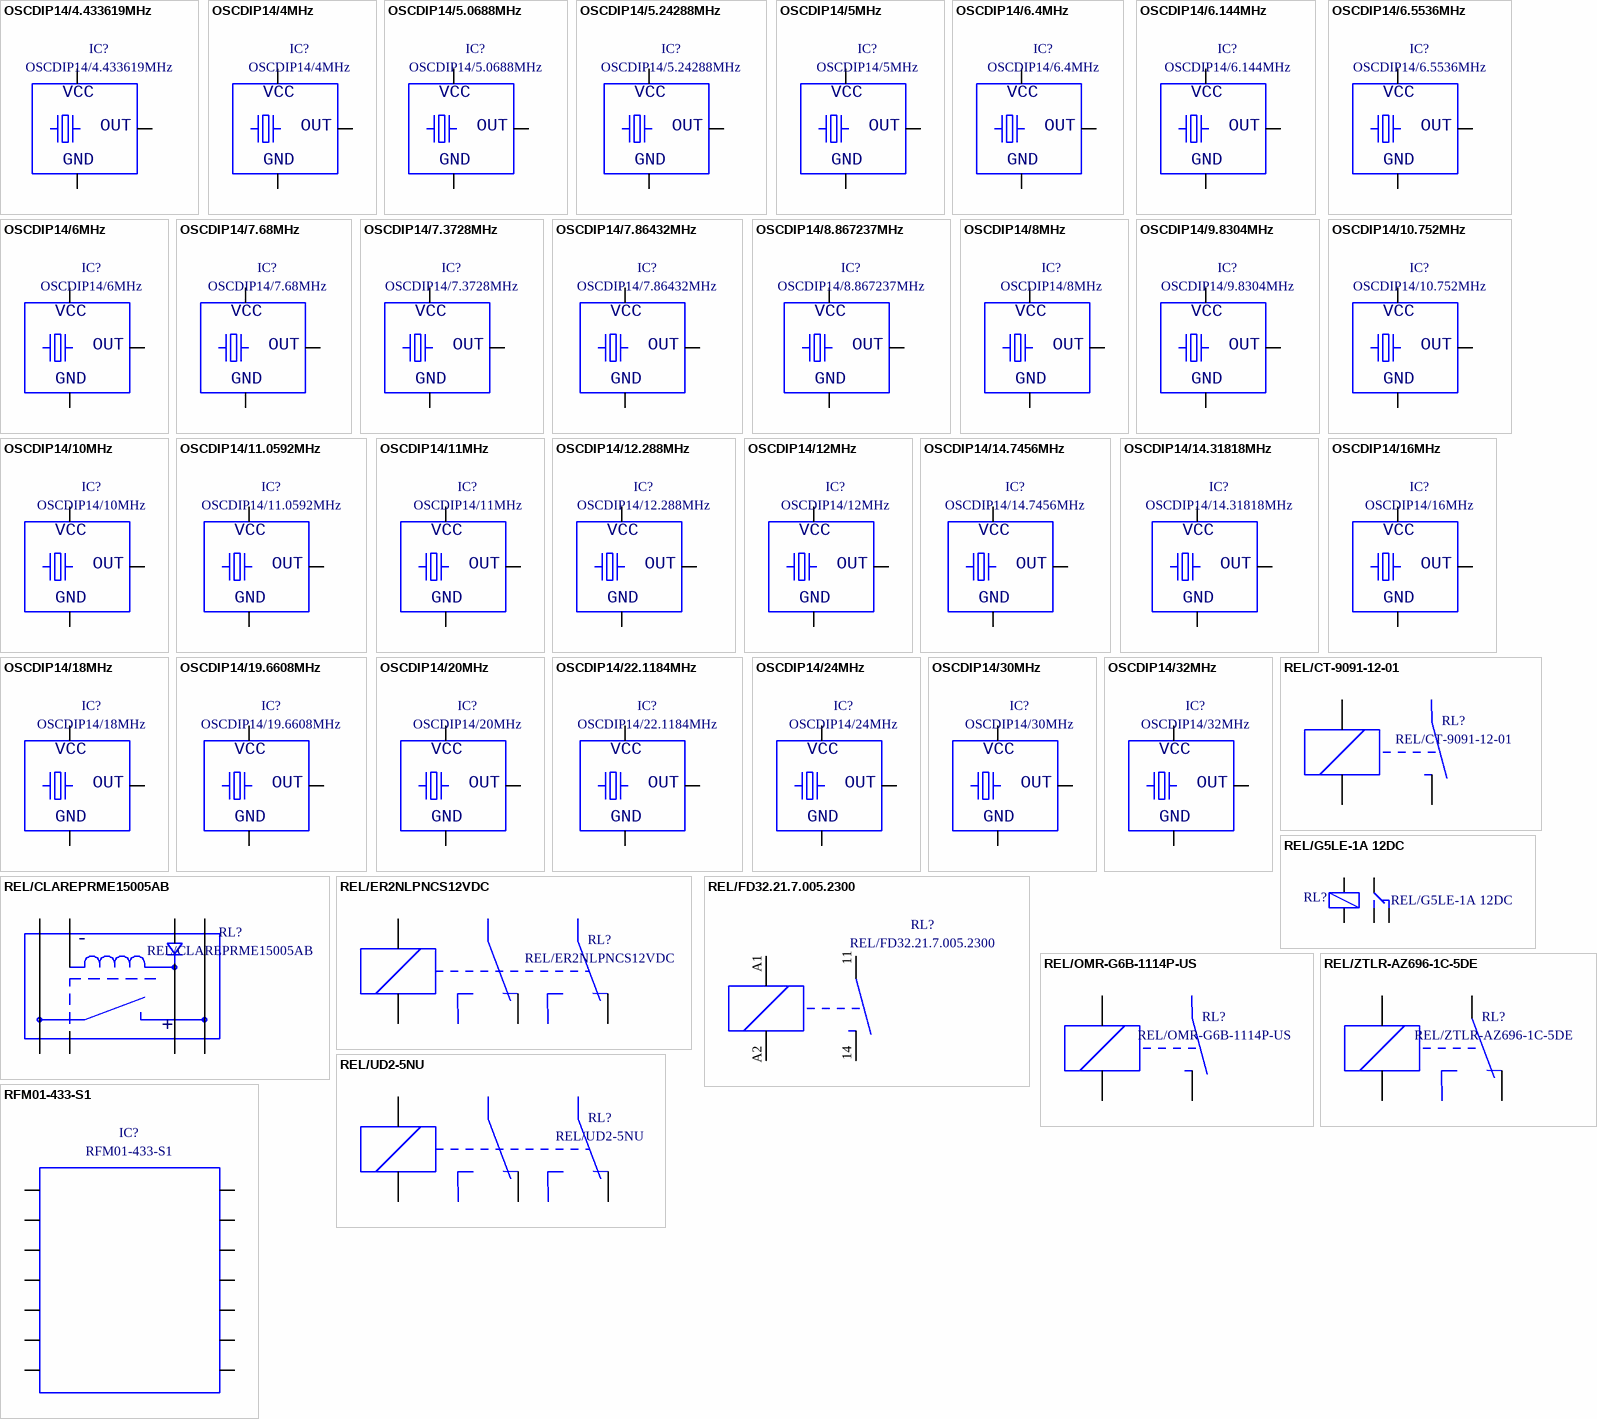
[diagram p137: symbols OSCDIP14/4.433619MHz to RFM01-433-S1]

## OSCDIP14/4.433619MHz
designator IC?
kristaloscillator, 1 uitgang, DIP14-4p, 4.433619MHz; Part Number: OSCDIP14/4.433619MHz; Component Kind: Standard; Component Type: Standard; Designator: OSCDIP14/4.433619MHz; Footprint: kristalosc DIP14-4p; Library Reference: OSCDIP14/4.433619MHz; Pin Count: 3
footprint kristalosc DIP14-4p
pins: 2, 3, 4
text: VCC; OUT; GND

## OSCDIP14/4MHz
designator IC?
kristaloscillator, 1 uitgang, DIP14-4p, 4MHz; Part Number: OSCDIP14/4MHz; Component Kind: Standard; Component Type: Standard; Designator: OSCDIP14/4MHz; Footprint: kristalosc DIP14-4p; Library Reference: OSCDIP14/4MHz; Pin Count: 3
footprint kristalosc DIP14-4p
pins: 2, 3, 4
text: VCC; OUT; GND

## OSCDIP14/5.0688MHz
designator IC?
kristaloscillator, 1 uitgang, DIP14-4p, 5.0688MHz; Part Number: OSCDIP14/5.0688MHz; Component Kind: Standard; Component Type: Standard; Designator: OSCDIP14/5.0688MHz; Footprint: kristalosc DIP14-4p; Library Reference: OSCDIP14/5.0688MHz; Pin Count: 3
footprint kristalosc DIP14-4p
pins: 2, 3, 4
text: VCC; OUT; GND

## OSCDIP14/5.24288MHz
designator IC?
kristaloscillator, 1 uitgang, DIP14-4p, 5.24288MHz; Part Number: OSCDIP14/5.24288MHz; Component Kind: Standard; Component Type: Standard; Designator: OSCDIP14/5.24288MHz; Footprint: kristalosc DIP14-4p; Library Reference: OSCDIP14/5.24288MHz; Pin Count: 3
footprint kristalosc DIP14-4p
pins: 2, 3, 4
text: VCC; OUT; GND

## OSCDIP14/5MHz
designator IC?
kristaloscillator, 1 uitgang, DIP14-4p, 5MHz; Part Number: OSCDIP14/5MHz; Component Kind: Standard; Component Type: Standard; Designator: OSCDIP14/5MHz; Footprint: kristalosc DIP14-4p; Library Reference: OSCDIP14/5MHz; Pin Count: 3
footprint kristalosc DIP14-4p
pins: 2, 3, 4
text: VCC; OUT; GND

## OSCDIP14/6.4MHz
designator IC?
kristaloscillator, 1 uitgang, DIP14-4p, 6.4MHz; Part Number: OSCDIP14/6.4MHz; Component Kind: Standard; Component Type: Standard; Designator: OSCDIP14/6.4MHz; Footprint: kristalosc DIP14-4p; Library Reference: OSCDIP14/6.4MHz; Pin Count: 3
footprint kristalosc DIP14-4p
pins: 2, 3, 4
text: VCC; OUT; GND

## OSCDIP14/6.144MHz
designator IC?
kristaloscillator, 1 uitgang, DIP14-4p, 6.144MHz; Part Number: OSCDIP14/6.144MHz; Component Kind: Standard; Component Type: Standard; Designator: OSCDIP14/6.144MHz; Footprint: kristalosc DIP14-4p; Library Reference: OSCDIP14/6.144MHz; Pin Count: 3
footprint kristalosc DIP14-4p
pins: 2, 3, 4
text: VCC; OUT; GND

## OSCDIP14/6.5536MHz
designator IC?
kristaloscillator, 1 uitgang, DIP14-4p, 6.5536MHz; Part Number: OSCDIP14/6.5536MHz; Component Kind: Standard; Component Type: Standard; Designator: OSCDIP14/6.5536MHz; Footprint: kristalosc DIP14-4p; Library Reference: OSCDIP14/6.5536MHz; Pin Count: 3
footprint kristalosc DIP14-4p
pins: 2, 3, 4
text: VCC; OUT; GND

## OSCDIP14/6MHz
designator IC?
kristaloscillator, 1 uitgang, DIP14-4p, 6MHz; Part Number: OSCDIP14/6MHz; Component Kind: Standard; Component Type: Standard; Designator: OSCDIP14/6MHz; Footprint: kristalosc DIP14-4p; Library Reference: OSCDIP14/6MHz; Pin Count: 3
footprint kristalosc DIP14-4p
pins: 2, 3, 4
text: VCC; OUT; GND

## OSCDIP14/7.68MHz
designator IC?
kristaloscillator, 1 uitgang, DIP14-4p, 7.68MHz; Part Number: OSCDIP14/7.68MHz; Component Kind: Standard; Component Type: Standard; Designator: OSCDIP14/7.68MHz; Footprint: kristalosc DIP14-4p; Library Reference: OSCDIP14/7.68MHz; Pin Count: 3
footprint kristalosc DIP14-4p
pins: 2, 3, 4
text: VCC; OUT; GND

## OSCDIP14/7.3728MHz
designator IC?
kristaloscillator, 1 uitgang, DIP14-4p, 7.3728MHz; Part Number: OSCDIP14/7.3728MHz; Component Kind: Standard; Component Type: Standard; Designator: OSCDIP14/7.3728MHz; Footprint: kristalosc DIP14-4p; Library Reference: OSCDIP14/7.3728MHz; Pin Count: 3
footprint kristalosc DIP14-4p
pins: 2, 3, 4
text: VCC; OUT; GND

## OSCDIP14/7.86432MHz
designator IC?
kristaloscillator, 1 uitgang, DIP14-4p, 7.86432MHz; Part Number: OSCDIP14/7.86432MHz; Component Kind: Standard; Component Type: Standard; Designator: OSCDIP14/7.86432MHz; Footprint: kristalosc DIP14-4p; Library Reference: OSCDIP14/7.86432MHz; Pin Count: 3
footprint kristalosc DIP14-4p
pins: 2, 3, 4
text: VCC; OUT; GND

## OSCDIP14/8.867237MHz
designator IC?
kristaloscillator, 1 uitgang, DIP14-4p, 8.867237MHz; Part Number: OSCDIP14/8.867237MHz; Component Kind: Standard; Component Type: Standard; Designator: OSCDIP14/8.867237MHz; Footprint: kristalosc DIP14-4p; Library Reference: OSCDIP14/8.867237MHz; Pin Count: 3
footprint kristalosc DIP14-4p
pins: 2, 3, 4
text: VCC; OUT; GND

## OSCDIP14/8MHz
designator IC?
kristaloscillator, 1 uitgang, DIP14-4p, 8MHz; Part Number: OSCDIP14/8MHz; Component Kind: Standard; Component Type: Standard; Designator: OSCDIP14/8MHz; Footprint: kristalosc DIP14-4p; Library Reference: OSCDIP14/8MHz; Pin Count: 3
footprint kristalosc DIP14-4p
pins: 2, 3, 4
text: VCC; OUT; GND

## OSCDIP14/9.8304MHz
designator IC?
kristaloscillator, 1 uitgang, DIP14-4p, 9.8304MHz; Part Number: OSCDIP14/9.8304MHz; Component Kind: Standard; Component Type: Standard; Designator: OSCDIP14/9.8304MHz; Footprint: kristalosc DIP14-4p; Library Reference: OSCDIP14/9.8304MHz; Pin Count: 3
footprint kristalosc DIP14-4p
pins: 2, 3, 4
text: VCC; OUT; GND

## OSCDIP14/10.752MHz
designator IC?
kristaloscillator, 1 uitgang, DIP14-4p, 10.752MHz; Part Number: OSCDIP14/10.752MHz; Component Kind: Standard; Component Type: Standard; Designator: OSCDIP14/10.752MHz; Footprint: kristalosc DIP14-4p; Library Reference: OSCDIP14/10.752MHz; Pin Count: 3
footprint kristalosc DIP14-4p
pins: 2, 3, 4
text: VCC; OUT; GND

## OSCDIP14/10MHz
designator IC?
kristaloscillator, 1 uitgang, DIP14-4p, 10MHz; Part Number: OSCDIP14/10MHz; Component Kind: Standard; Component Type: Standard; Designator: OSCDIP14/10MHz; Footprint: kristalosc DIP14-4p; Library Reference: OSCDIP14/10MHz; Pin Count: 3
footprint kristalosc DIP14-4p
pins: 2, 3, 4
text: VCC; OUT; GND

## OSCDIP14/11.0592MHz
designator IC?
kristaloscillator, 1 uitgang, DIP14-4p, 11.0592MHz; Part Number: OSCDIP14/11.0592MHz; Component Kind: Standard; Component Type: Standard; Designator: OSCDIP14/11.0592MHz; Footprint: kristalosc DIP14-4p; Library Reference: OSCDIP14/11.0592MHz; Pin Count: 3
footprint kristalosc DIP14-4p
pins: 2, 3, 4
text: VCC; OUT; GND

## OSCDIP14/11MHz
designator IC?
kristaloscillator, 1 uitgang, DIP14-4p, 11MHz; Part Number: OSCDIP14/11MHz; Component Kind: Standard; Component Type: Standard; Designator: OSCDIP14/11MHz; Footprint: kristalosc DIP14-4p; Library Reference: OSCDIP14/11MHz; Pin Count: 3
footprint kristalosc DIP14-4p
pins: 2, 3, 4
text: VCC; OUT; GND

## OSCDIP14/12.288MHz
designator IC?
kristaloscillator, 1 uitgang, DIP14-4p, 12.288MHz; Part Number: OSCDIP14/12.288MHz; Component Kind: Standard; Component Type: Standard; Designator: OSCDIP14/12.288MHz; Footprint: kristalosc DIP14-4p; Library Reference: OSCDIP14/12.288MHz; Pin Count: 3
footprint kristalosc DIP14-4p
pins: 2, 3, 4
text: VCC; OUT; GND

## OSCDIP14/12MHz
designator IC?
kristaloscillator, 1 uitgang, DIP14-4p, 12MHz; Part Number: OSCDIP14/12MHz; Component Kind: Standard; Component Type: Standard; Designator: OSCDIP14/12MHz; Footprint: kristalosc DIP14-4p; Library Reference: OSCDIP14/12MHz; Pin Count: 3
footprint kristalosc DIP14-4p
pins: 2, 3, 4
text: VCC; OUT; GND

## OSCDIP14/14.7456MHz
designator IC?
kristaloscillator, 1 uitgang, DIP14-4p, 14.7456MHz; Part Number: OSCDIP14/14.7456MHz; Component Kind: Standard; Component Type: Standard; Designator: OSCDIP14/14.7456MHz; Footprint: kristalosc DIP14-4p; Library Reference: OSCDIP14/14.7456MHz; Pin Count: 3
footprint kristalosc DIP14-4p
pins: 2, 3, 4
text: VCC; OUT; GND

## OSCDIP14/14.31818MHz
designator IC?
kristaloscillator, 1 uitgang, DIP14-4p, 14.31818MHz; Part Number: OSCDIP14/14.31818MHz; Component Kind: Standard; Component Type: Standard; Designator: OSCDIP14/14.31818MHz; Footprint: kristalosc DIP14-4p; Library Reference: OSCDIP14/14.31818MHz; Pin Count: 3
footprint kristalosc DIP14-4p
pins: 2, 3, 4
text: VCC; OUT; GND

## OSCDIP14/16MHz
designator IC?
kristaloscillator, 1 uitgang, DIP14-4p, 16MHz; Part Number: OSCDIP14/16MHz; Component Kind: Standard; Component Type: Standard; Designator: OSCDIP14/16MHz; Footprint: kristalosc DIP14-4p; Library Reference: OSCDIP14/16MHz; Pin Count: 3
footprint kristalosc DIP14-4p
pins: 2, 3, 4
text: VCC; OUT; GND

## OSCDIP14/18MHz
designator IC?
kristaloscillator, 1 uitgang, DIP14-4p, 18MHz; Part Number: OSCDIP14/18MHz; Component Kind: Standard; Component Type: Standard; Designator: OSCDIP14/18MHz; Footprint: kristalosc DIP14-4p; Library Reference: OSCDIP14/18MHz; Pin Count: 3
footprint kristalosc DIP14-4p
pins: 2, 3, 4
text: VCC; OUT; GND

## OSCDIP14/19.6608MHz
designator IC?
kristaloscillator, 1 uitgang, DIP14-4p, 19.6608MHz; Part Number: OSCDIP14/19.6608MHz; Component Kind: Standard; Component Type: Standard; Designator: OSCDIP14/19.6608MHz; Footprint: kristalosc DIP14-4p; Library Reference: OSCDIP14/19.6608MHz; Pin Count: 3
footprint kristalosc DIP14-4p
pins: 2, 3, 4
text: VCC; OUT; GND

## OSCDIP14/20MHz
designator IC?
kristaloscillator, 1 uitgang, DIP14-4p, 20MHz; Part Number: OSCDIP14/20MHz; Component Kind: Standard; Component Type: Standard; Designator: OSCDIP14/20MHz; Footprint: kristalosc DIP14-4p; Library Reference: OSCDIP14/20MHz; Pin Count: 3
footprint kristalosc DIP14-4p
pins: 2, 3, 4
text: VCC; OUT; GND

## OSCDIP14/22.1184MHz
designator IC?
kristaloscillator, 1 uitgang, DIP14-4p, 22.1184MHz; Part Number: OSCDIP14/22.1184MHz; Component Kind: Standard; Component Type: Standard; Designator: OSCDIP14/22.1184MHz; Footprint: kristalosc DIP14-4p; Library Reference: OSCDIP14/22.1184MHz; Pin Count: 3
footprint kristalosc DIP14-4p
pins: 2, 3, 4
text: VCC; OUT; GND

## OSCDIP14/24MHz
designator IC?
kristaloscillator, 1 uitgang, DIP14-4p, 24MHz; Part Number: OSCDIP14/24MHz; Component Kind: Standard; Component Type: Standard; Designator: OSCDIP14/24MHz; Footprint: kristalosc DIP14-4p; Library Reference: OSCDIP14/24MHz; Pin Count: 3
footprint kristalosc DIP14-4p
pins: 2, 3, 4
text: VCC; OUT; GND

## OSCDIP14/30MHz
designator IC?
kristaloscillator, 1 uitgang, DIP14-4p, 30MHz; Part Number: OSCDIP14/30MHz; Component Kind: Standard; Component Type: Standard; Designator: OSCDIP14/30MHz; Footprint: kristalosc DIP14-4p; Library Reference: OSCDIP14/30MHz; Pin Count: 3
footprint kristalosc DIP14-4p
pins: 2, 3, 4
text: VCC; OUT; GND

## OSCDIP14/32MHz
designator IC?
kristaloscillator, 1 uitgang, DIP14-4p, 32MHz; Part Number: OSCDIP14/32MHz; Component Kind: Standard; Component Type: Standard; Designator: OSCDIP14/32MHz; Footprint: kristalosc DIP14-4p; Library Reference: OSCDIP14/32MHz; Pin Count: 3
footprint kristalosc DIP14-4p
pins: 2, 3, 4
text: VCC; OUT; GND

## REL/CLAREPRME15005AB
designator RL?
relais, enkelpolig NO, met diode en afscherming, Clare PRME15005AB
footprint relais (Clare PRME/A)
pins: 1, 2, 6, 7, 8, 9, 13, 14
text: -; +

## REL/CT-9091-12-01
designator RL?
relais, enkelpolig NO, Coto Technologie 9091-12-01
footprint relais (Coto Techn. 9091 series)
pins: 1, 2, 3, 4

## REL/ER2NLPNCS12VDC
designator RL?
relais, dubbelpolig wissel, IMO ER2N-LP-N-CS-12VDC
footprint relais (IMO ER2N-LP)
pins: 1, 2, 3, 4, 5, 6, 7, 8

## REL/FD32.21.7.005.2300
designator RL?
relais, enkelpolig NO, Finder 32.21.7.005.2300
footprint relais (Finder 32.21.7.005.2300)
pins: 11, 14, A1, A2

## REL/G5LE-1A 12DC
designator RL?
relais, enkelpolig wissel, Omron G5LE-1A 12DC
footprint RELAIS G5LE-1A
pins: 1, 2, 3, 4, 5

## REL/OMR-G6B-1114P-US
designator RL?
relais, enkelpolig NO, Omron G6B-1114P-US
footprint relais (Omron G6B-1114P)
pins: 1, 2, 3, 4

## REL/UD2-5NU
designator RL?
relais, dubbelpolig wissel, Imo UD2-5NU
footprint smd relais Imo UD2
pins: 1, 2, 3, 4, 5, 6, 7, 8

## REL/ZTLR-AZ696-1C-5DE
designator RL?
relais, enkelpolig wissel, Zettler AZ696-1C-5DE
footprint relais (Zettler AZ696/C)
pins: 1, 2, 3, 4, 5

## RFM01-433-S1
designator IC?
receiver module
footprint receiver RFM01-433-S1 (Quasar)
pins: 1 FFIT, 2 NIRQ, 3 DATA, 4 DCLK, 5 CLK, 6 NRES, 7 GND, 8 ANT, 9 VDD, 10 GND, 11 VDI, 12 SDI, 13 SCK, 14 NSEL

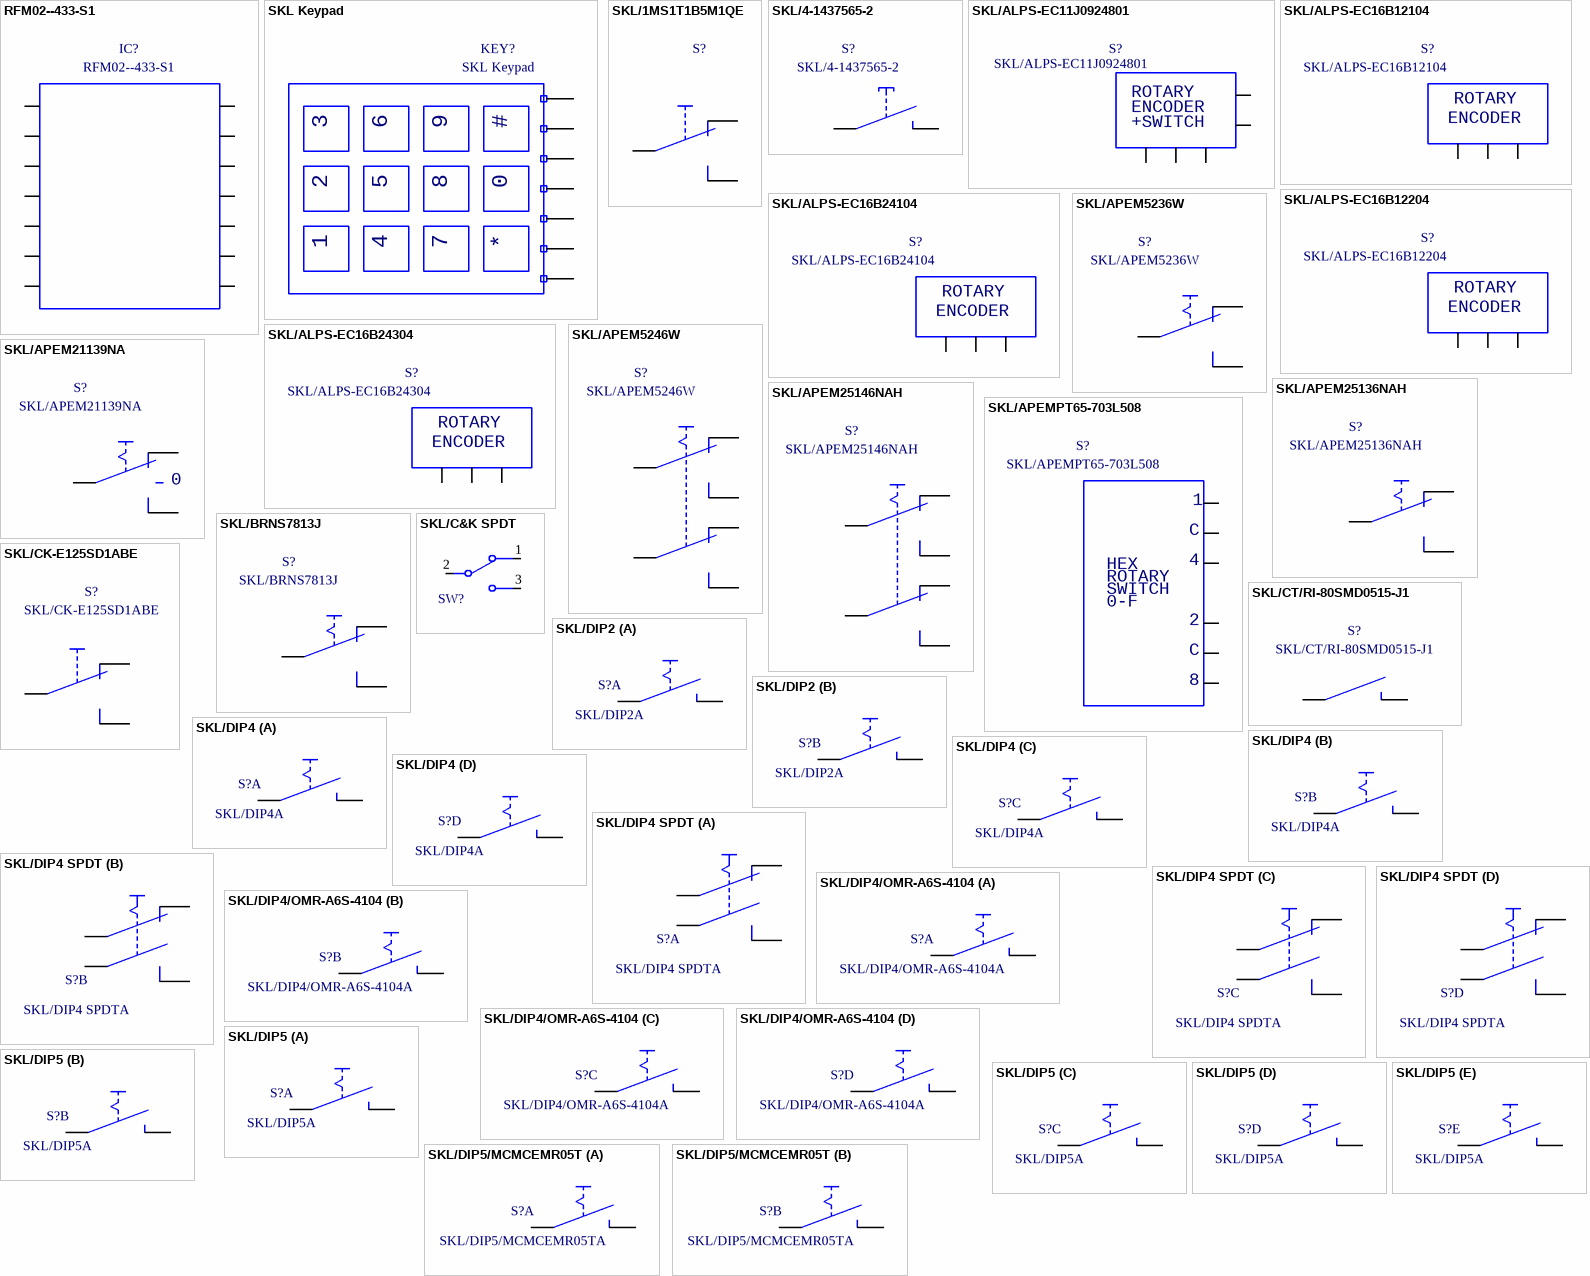
[diagram p138: symbols RFM02--433-S1 to SKL/DIP5/MCMCEMR05T]

## RFM02--433-S1
designator IC?
transmitter module
footprint receiver RFM01-433-S1 (Quasar)
pins: 1 SDI, 2 SCK, 3 NSEL, 4 CLK, 5 GND, 6 GND, 7 GND, 8 ANT, 9 GND, 10 GND, 11 VCC, 12 GND, 13 FSK, 14 NIRQ

## SKL Keypad
designator KEY?
Keypad 3x4
footprint SKL Keypad 3x4 (keypad 3x4)
pins: 1 COL2, 2 ROW1, 3 COL1, 4 ROW4, 5 COL3, 6 ROW3, 7 ROW2
text: 9; #; 8; 0

## SKL/1MS1T1B5M1QE
designator S?  (value not drawn)
schakelaar enkelpolig wissel, Multicomp, 1MS1T1B5M1QE
footprint SKL/CK-E125SD1ABE
pins: 1, 2, 3

## SKL/4-1437565-2
designator S?
schakelaar enkelpolig impuls, Alcoswitch 4-1437565-2
footprint SKL/4-1437565-2 (Alcoswitch 4-1437565-2)
pins: 1, 2

## SKL/ALPS-EC11J0924801
designator S?
rotary encoder Alps met drukschakelaar, smd
footprint SKL/ALPS-EC11J0924801
pins: 1, 2, 3, 4, 5
text: ROTARY; ENCODER; +SWITCH

## SKL/ALPS-EC16B12104
designator S?
rotary encoder ALPS, geïsoleerde as, 16mm; Part Number: SKL/ALPS-EC16B12104; Component Kind: Standard; Component Type: Standard; Designator: SKL/ALPS-EC16B12104; Footprint: SKL/ALPS-EC16Bxxx04; Library Reference: SKL/ALPS-EC16B12104; Pin Count: 3
footprint SKL/ALPS-EC16Bxxx04
pins: 1, 2, 3
text: ROTARY; ENCODER

## SKL/ALPS-EC16B12204
designator S?
rotary encoder ALPS, geïsoleerde as, 16mm; Part Number: SKL/ALPS-EC16B12204; Component Kind: Standard; Component Type: Standard; Designator: SKL/ALPS-EC16B12204; Footprint: SKL/ALPS-EC16Bxxx04; Library Reference: SKL/ALPS-EC16B12204; Pin Count: 3
footprint SKL/ALPS-EC16Bxxx04
pins: 1, 2, 3
text: ROTARY; ENCODER

## SKL/ALPS-EC16B24104
designator S?
rotary encoder ALPS, geïsoleerde as, 16mm; Part Number: SKL/ALPS-EC16B24104; Component Kind: Standard; Component Type: Standard; Designator: SKL/ALPS-EC16B24104; Footprint: SKL/ALPS-EC16Bxxx04; Library Reference: SKL/ALPS-EC16B24104; Pin Count: 3
footprint SKL/ALPS-EC16Bxxx04
pins: 1, 2, 3
text: ROTARY; ENCODER

## SKL/ALPS-EC16B24304
designator S?
rotary encoder ALPS, geïsoleerde as, 16mm
footprint SKL/ALPS-EC16Bxxx04
pins: 1, 2, 3
text: ROTARY; ENCODER

## SKL/APEM5236W
designator S?
schakelaar enkelpolig wissel, printmontage 90gr, APEM5236W
footprint SKL/APEM5236W
pins: 1, 2, 3

## SKL/APEM5246W
designator S?
schakelaar dubbelpolig wissel, printmontage 90gr,  APEM5246W
footprint SKL/APEM5246W
pins: 1, 2, 3, 4, 5, 6

## SKL/APEM21139NA
designator S?
schakelaar enkelpolig wissel met 0-stand, 90gr, APEM21139NA
footprint SKL/APEM21139NA
pins: 1, 2, 3
text: 0

## SKL/APEM25136NAH
designator S?
schakelaar enkelpolig wissel, printmontage,  APEM25136NAH
footprint SKL/APEM25136NAH
pins: 1, 2, 3

## SKL/APEM25146NAH
designator S?
schakelaar dubbelpolig wissel, printmontage,  APEM25146NAH
footprint SKL/APEM25146NAH
pins: 1, 2, 3, 4, 5, 6

## SKL/APEMPT65-703L508
designator S?
schakelaar rotary, hexadecimaal, 90gr, Apem PT65-703L508
footprint SKL/APEMPT65-703L508
pins: 1, 2, 3, 4, 5, 6
text: C; HEX; ROTARY; SWITCH; 0-F; 8

## SKL/BRNS7813J
designator S?
schakelaar enkelpolig wissel, smd, Bourns 7813J
footprint smd SKL (Bourns 7813J)
pins: 1, 2, 3

## SKL/C&K SPDT
designator SW?  (value not drawn)
OS102011MA1QN1; Part Number: SKL/C&K SPDT; Component Kind: Standard; Component Type: Standard; Designator: SKL/C&K SPDT; Footprint: SKL/SKL/C&K SPDT; Library Reference: SKL/C&K SPDT; Pin Count: 3
footprint SKL/SKL/C&K SPDT
pins: 1, 2, 3

## SKL/CK-E125SD1ABE
designator S?
schakelaar enkelpolig wissel, C&K, E125SD1ABE
footprint SKL/CK-E125SD1ABE
pins: 1, 2, 3

## SKL/CT/RI-80SMD0515-J1
designator S?
reed schakelaar, Coto Technology RI-80SMD0515-J1
footprint smd SKL/RI-80-J (Coto Technology)
pins: 1, 2

## SKL/DIP2
designator S?, comment SKL/DIP2A
DIP schakelaar, 2 bits, recht
footprint SKL/DIP2
part A pins: 1, 2
part B pins: 3, 4

## SKL/DIP4
designator S?, comment SKL/DIP4A
DIP schakelaar, 4 bits, recht
footprint SKL/DIP4
part A pins: 1, 2
part B pins: 3, 4
part C pins: 5, 6
part D pins: 7, 8

## SKL/DIP4 SPDT
designator S?, comment SKL/DIP4 SPDTA
DIP schakelaar, 4 bits, SPDT
footprint SKL/DIP4/SPDT (78J04T)
part A pins: 1, 2, 3, 4
part B pins: 5, 6, 7, 8
part C pins: 9, 10, 11, 12
part D pins: 13, 14, 15, 16

## SKL/DIP4/OMR-A6S-4104
designator S?, comment SKL/DIP4/OMR-A6S-4104A
DIP schakelaar, 4 bits, smd Omron A6S-4104
footprint SKL/DIP4 (Omron A6S-4104)
part A pins: 1, 2
part B pins: 3, 4
part C pins: 5, 6
part D pins: 7, 8

## SKL/DIP5
designator S?, comment SKL/DIP5A
DIP schakelaar, 5 bits, recht
footprint SKL/DIP5
part A pins: 1, 2
part B pins: 3, 4
part C pins: 5, 6
part D pins: 7, 8
part E pins: 9, 10

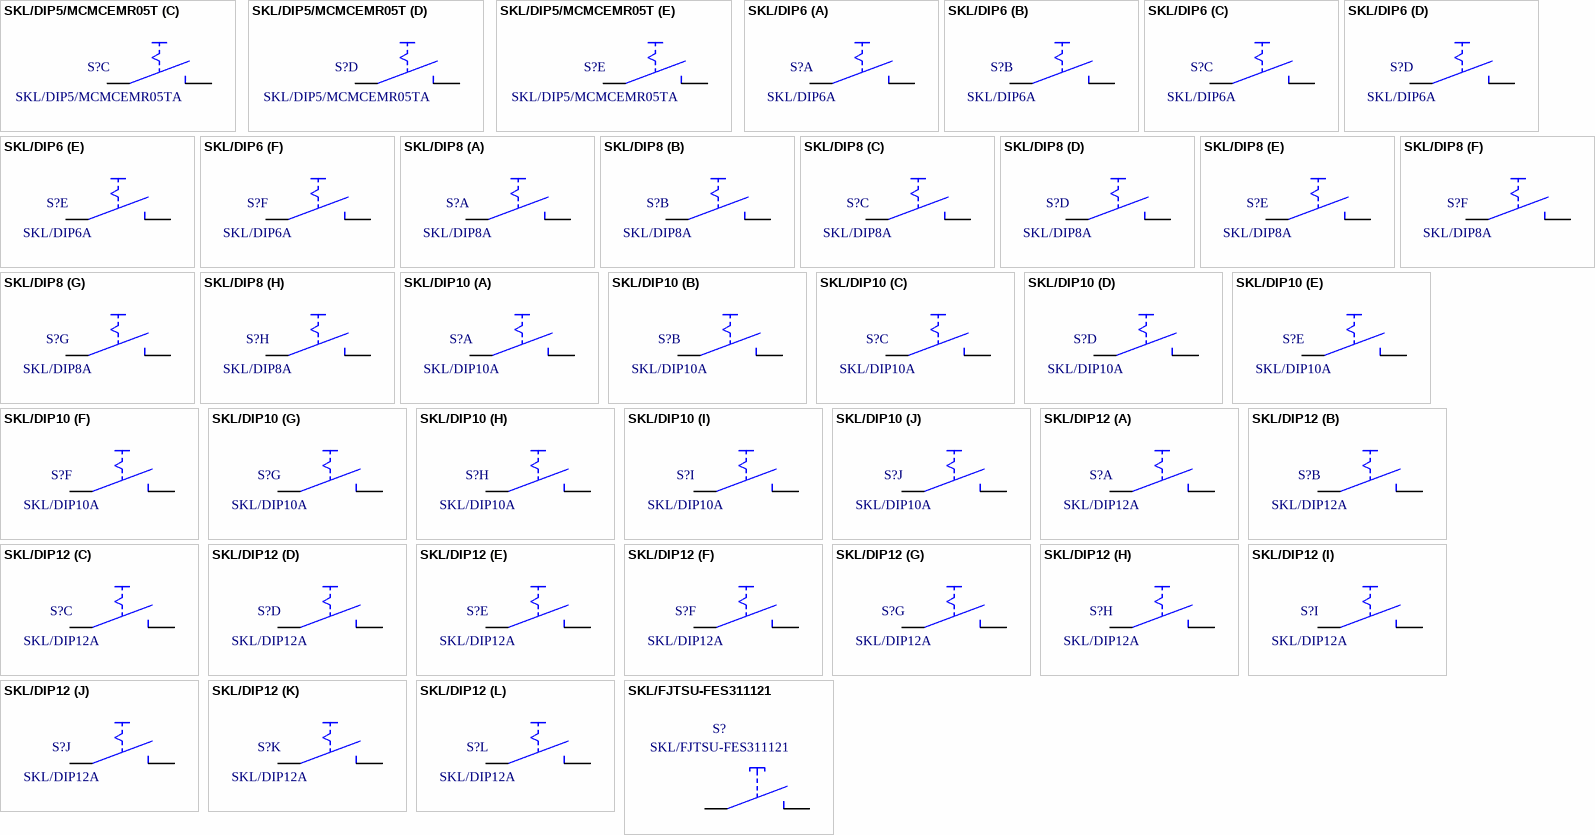
[diagram p139: symbols SKL/DIP5/MCMCEMR05T to SKL/FJTSU-FES311121]

## SKL/DIP5/MCMCEMR05T
designator S?, comment SKL/DIP5/MCMCEMR05TA
DIP schakelaar, 5 bits, smd Multicomp MCEMR-05-T
footprint SKL/DIP5 (Multicomp MCEMR-05-T)
part A pins: 1, 2
part B pins: 3, 4
part C pins: 5, 6
part D pins: 7, 8
part E pins: 9, 10

## SKL/DIP6
designator S?, comment SKL/DIP6A
DIP schakelaar, 6 bits, recht
footprint SKL/DIP6
part A pins: 1, 2
part B pins: 3, 4
part C pins: 5, 6
part D pins: 7, 8
part E pins: 9, 10
part F pins: 11, 12

## SKL/DIP8
designator S?, comment SKL/DIP8A
DIP schakelaar, 8 bits, recht
footprint SKL/DIP8
part A pins: 1, 2
part B pins: 3, 4
part C pins: 5, 6
part D pins: 7, 8
part E pins: 9, 10
part F pins: 11, 12
part G pins: 13, 14
part H pins: 15, 16

## SKL/DIP10
designator S?, comment SKL/DIP10A
DIP schakelaar, 10 bits, recht
footprint SKL/DIP10
part A pins: 1, 2
part B pins: 3, 4
part C pins: 5, 6
part D pins: 7, 8
part E pins: 9, 10
part F pins: 11, 12
part G pins: 13, 14
part H pins: 15, 16
part I pins: 17, 18
part J pins: 19, 20

## SKL/DIP12
designator S?, comment SKL/DIP12A
DIP schakelaar, 12 bits, recht
footprint SKL/DIP12
part A pins: 1, 2
part B pins: 3, 4
part C pins: 5, 6
part D pins: 7, 8
part E pins: 9, 10
part F pins: 11, 12
part G pins: 13, 14
part H pins: 15, 16
part I pins: 17, 18
part J pins: 19, 20
part K pins: 21, 22
part L pins: 23, 24

## SKL/FJTSU-FES311121
designator S?
schakelaar enkelpolig impuls, Fujitsu FES311121
footprint SKL/FJTSU-FES311121
pins: 1, 2

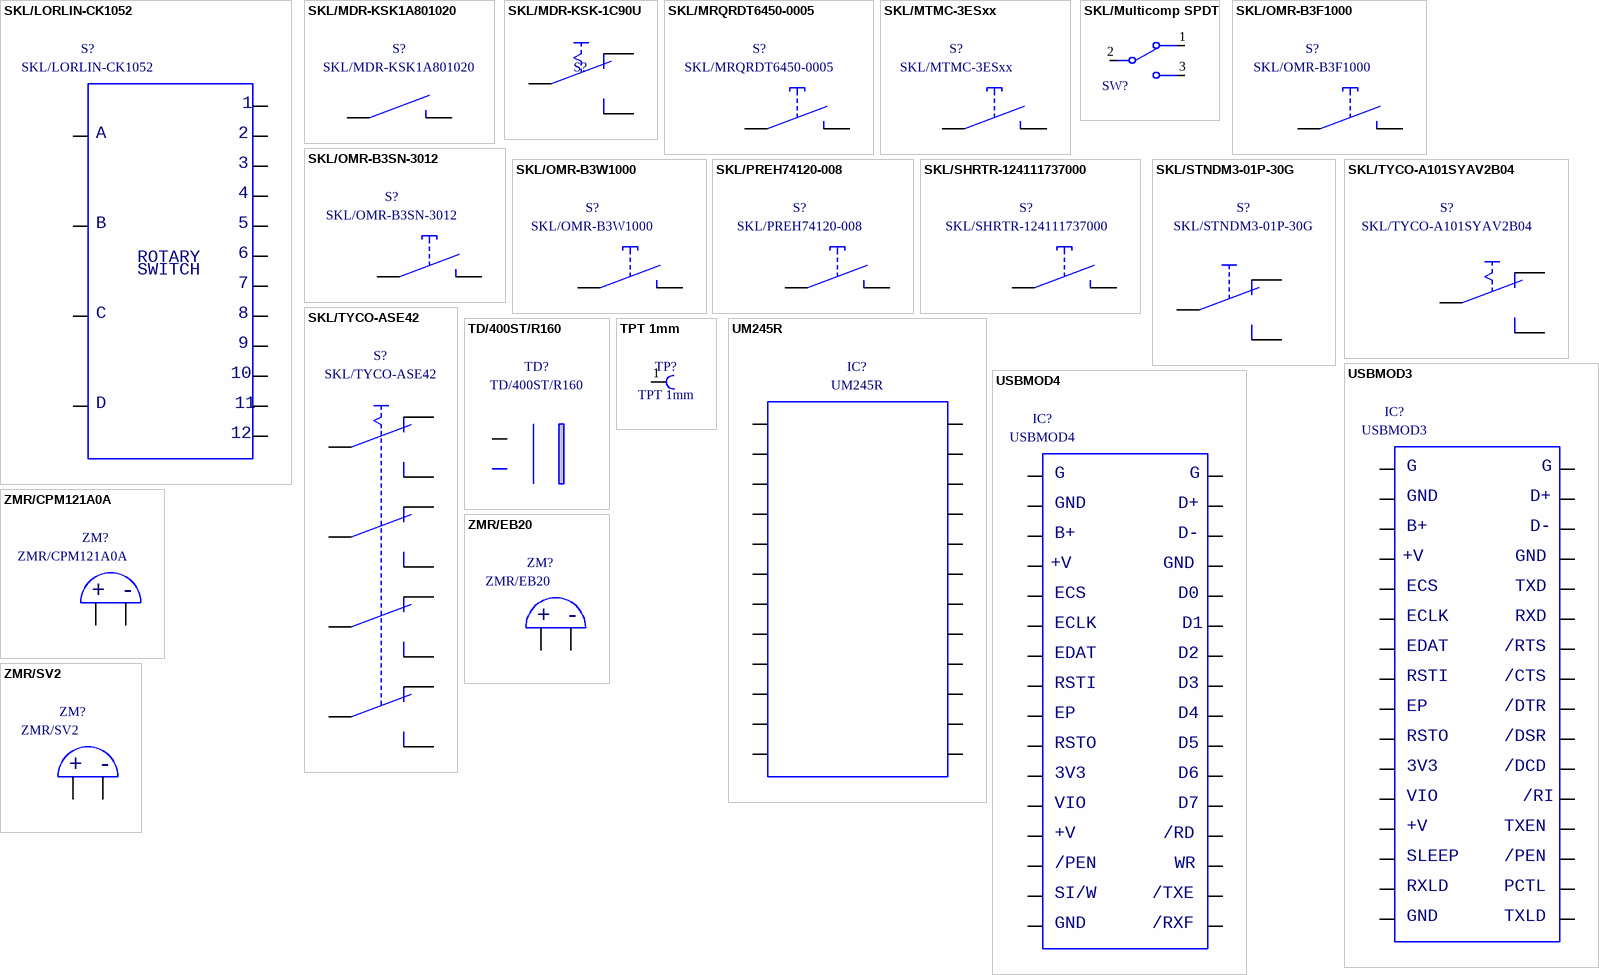
[diagram p140: symbols SKL/LORLIN-CK1052 to ZMR/SV2]

## SKL/LORLIN-CK1052
designator S?
schakelaar rotary, Lorlin CK1052
footprint SKL/LORLIN-CK1052
pins: 1, 2, 3, 4, 5, 6, 7, 8, 9, 10, 11, 12, 13, 14, 15, 16
text: A; B; ROTARY; SWITCH; C; D

## SKL/MDR-KSK1A801020
designator S?
schakelaar, reed, Meder KSK-1A80-1020
footprint SKL/MDR-KSK-1A80-1020
pins: 1, 2

## SKL/MDR-KSK-1C90U
designator S?  (value not drawn)
Meder KSK-1C90U Reed switch
footprint SKL/MDR-KSK-1C90U
pins: 1, 2, 3

## SKL/MRQRDT6450-0005
designator S?
schakelaar enkelpolig impuls, Marquardt 6450-0005
footprint SKL/MRQRDT6450-0005
pins: 1, 2

## SKL/MTMC-3ESxx
designator S?
schakelaar enkelpolig impuls, Multimec 3ES reeks
footprint smd SKL/MULTIMEC-3E
pins: 1, 2

## SKL/Multicomp SPDT
designator SW?  (value not drawn)
2MS1T2B2M7RE; Part Number: SKL/C&K SPDT; Component Kind: Standard; Component Type: Standard; Footprint: SKL/SKL/C&K SPDT; Library Reference: SKL/C&K SPDT; Pin Count: 3
footprint SKL Multicomp SPDT (Schakelaar Multicomp 2MS1T2B2M7RE)
pins: 1, 2, 3

## SKL/OMR-B3F1000
designator S?
schakelaar enkelpolig impuls, Omron B3F1000
footprint SKL/OMR-B3F1000
pins: 1, 2

## SKL/OMR-B3SN-3012
designator S?
schakelaar enkelpolig impuls, Omron B3SN-3012
footprint SKL/OMR-B3SN-3012
pins: 1, 3

## SKL/OMR-B3W1000
designator S?
schakelaar enkelpolig impuls, Omron B3W1000; Part Number: SKL/OMR-B3W1000; Component Kind: Standard; Component Type: Standard; Designator: SKL/OMR-B3W1000; Footprint: SKL/OMR-B3F1000; Library Reference: SKL/OMR-B3W1000; Pin Count: 2
footprint SKL/OMR-B3F1000
pins: 1, 2

## SKL/PREH74120-008
designator S?
schakelaar enkelpolig impuls, PREH 74120-008
footprint SKL/PREH74120-008
pins: 1, 4

## SKL/SHRTR-124111737000
designator S?
schakelaar enkelpolig impuls, Shurter 24111737000
footprint SKL/SHRTR-124111737000
pins: 1, 2

## SKL/STNDM3-01P-30G
designator S?
microschakelaar met hefboom, Switronic, DM3-01P-30G
footprint SKL/STNDM3-01P-30G
pins: 1, 2, 3

## SKL/TYCO-A101SYAV2B04
designator S?
schakelaar enkelpolig wissel, printmontage 90gr, TYCO A101SYAV2B04
footprint SKL/TYCO-A101SYAV2B04
pins: 1, 2, 3

## SKL/TYCO-ASE42
designator S?
schakelaar vierpolig wissel, Tyco ASE-42
footprint SKL/TYCO-ASE42
pins: 1, 2, 3, 4, 5, 6, 7, 8, 9, 10, 11, 12

## TD/400ST/R160
designator TD?
transducer Midas Components, 400ST/R160
footprint transducer 400ST/R160 (Midas Components)
pins: 1, 2

## TPT 1mm
designator TP?
Testpunt 1mm; Part Number: TPT 1mm; Component Kind: Standard; Component Type: Standard; Designator: TPT 1mm; Footprint: TPT 1mm; Library Reference: TPT 1mm; Pin Count: 1
footprint TPT 1mm
pins: 1

## UM245R
designator IC?
usb module
footprint usbmodule UM245R (FTDI)
pins: 1 DB0, 2 DB4, 3 DB2, 4 VIO, 5 DB1, 6 DB7, 7 GND, 8 DB5, 9 DB6, 10 DB3, 11 PWE#, 12 RD#, 13 SLD, 14 USB, 15 VCC, 16 PU2, 17 PU1, 18 WR#, 19 3V3, 20 RST#, 21 VCC, 22 TXE#, 23 RXF#, 24 GND

## USBMOD3
designator IC?
usb p&p serial development module, Elexol
footprint usbmodule3 (Elexol)
pins: 1, 2, 3, 4, 5, 6, 7, 8, 9, 10, 11, 12, 13, 14, 15, 16, 17, 18, 19, 20, 21, 22, 23, 24, 25, 26, 27, 28, 29, 30, 31, 32
text: G; GND; D+; B+; D-; +V; ECS; TXD; ECLK; RXD; EDAT; /RTS; RSTI; /CTS; EP; /DTR; RSTO; /DSR; 3V3; /DCD; VIO; /RI; TXEN; SLEEP; /PEN; RXLD; PCTL; TXLD

## USBMOD4
designator IC?
usb p&p serial development module, Elexol
footprint usbmodule3 (Elexol)
pins: 1, 2, 3, 4, 5, 6, 7, 8, 9, 10, 11, 12, 13, 14, 15, 16, 17, 18, 19, 20, 21, 22, 23, 24, 25, 26, 27, 28, 29, 30, 31, 32
text: G; GND; D+; B+; D-; +V; ECS; D0; ECLK; D1; EDAT; D2; RSTI; D3; EP; D4; RSTO; D5; 3V3; D6; VIO; D7; /RD; /PEN; WR; SI/W; /TXE; /RXF

## ZMR/CPM121A0A
designator ZM?
zoemer, Megacera CPM121A0A
footprint zoemer (CPM121A0A)
pins: 1, 2
text: +; -

## ZMR/EB20
designator ZM?
zoemer, 2-12VDC, FDK EB20E-35C-12V
footprint zoemer (EB20)
pins: 1, 2
text: +; -

## ZMR/SV2
designator ZM?
zoemer, 4-15VDC, Velleman SV2
footprint ZMR SV2 (Velleman SV2 buzzer)
pins: 1, 2
text: +; -


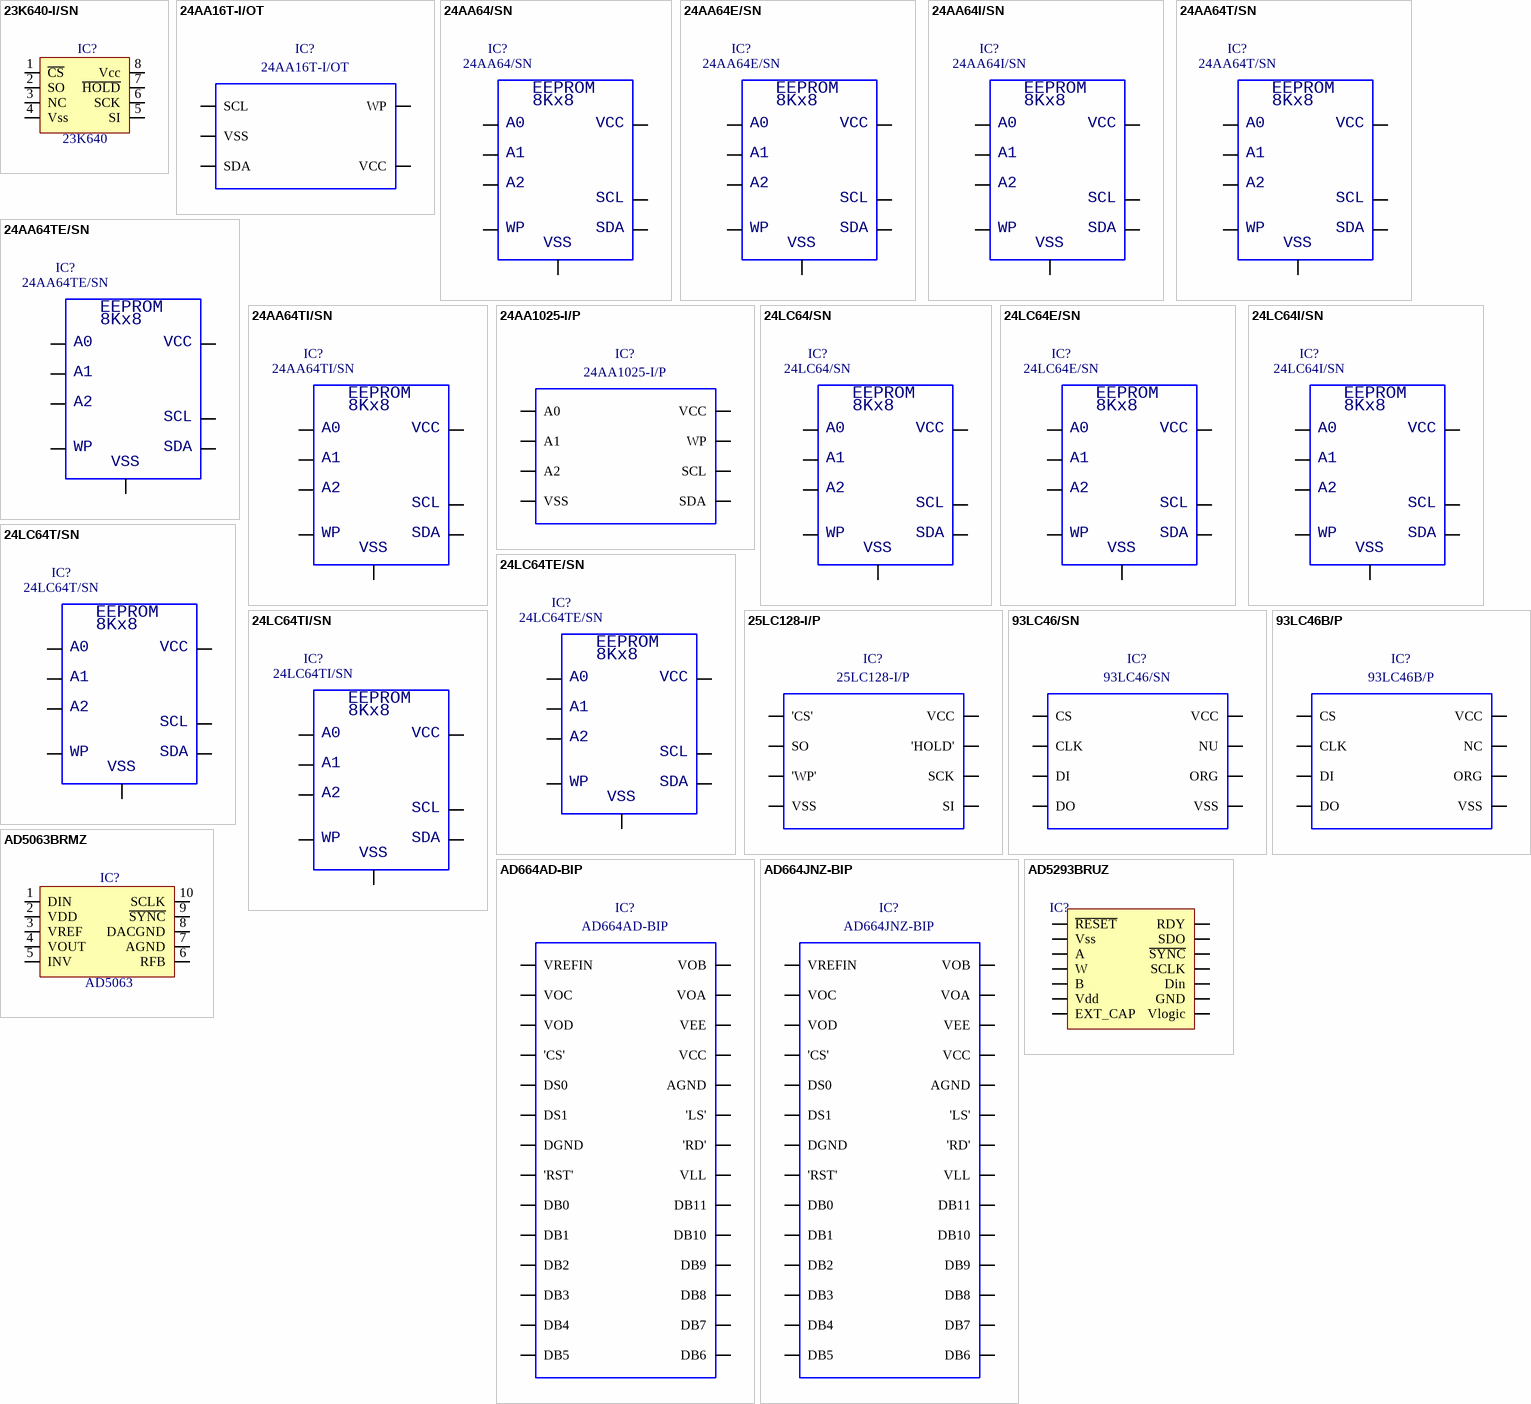
[diagram p141: symbols 23K640-I/SN to AD5293BRUZ]

## 23K640-I/SN
designator IC?, comment 23K640
64K SPI Bus Low-Power Serial SRAM
footprint smd QFN/16 (3x3mm p0.5mm) no bottom pad
pins: 1 ~{CS}, 2 SO, 3 NC, 4 Vss, 5 SI, 6 SCK, 7 ~{HOLD}, 8 Vcc

## 24AA16T-I/OT
designator IC?
16K I²C serial eeprom
footprint smd SOT-23/5p (body 1.6 wide, pitch 0.95mm)
pins: 1 SCL, 2 VSS, 3 SDA, 4 VCC, 5 WP

## 24AA64/SN
designator IC?
64K I²C cmos serial eeprom
footprint smd SOICN/8
pins: 1, 2, 3, 4, 5, 6, 7, 8
text: EEPROM; 8Kx8; A0; VCC; A1; A2; SCL; WP; SDA; VSS

## 24AA64E/SN
designator IC?
64K I²C cmos serial eeprom; Part Number: 24AA64E/SN; Component Kind: Standard; Component Type: Standard; Designator: 24AA64E/SN; Footprint: smd SOICN/8; Library Reference: 24AA64E/SN; Pin Count: 8
footprint smd SOICN/8
pins: 1, 2, 3, 4, 5, 6, 7, 8
text: EEPROM; 8Kx8; A0; VCC; A1; A2; SCL; WP; SDA; VSS

## 24AA64I/SN
designator IC?
64K I²C cmos serial eeprom; Part Number: 24AA64I/SN; Component Kind: Standard; Component Type: Standard; Designator: 24AA64I/SN; Footprint: smd SOICN/8; Library Reference: 24AA64I/SN; Pin Count: 8
footprint smd SOICN/8
pins: 1, 2, 3, 4, 5, 6, 7, 8
text: EEPROM; 8Kx8; A0; VCC; A1; A2; SCL; WP; SDA; VSS

## 24AA64T/SN
designator IC?
64K I²C cmos serial eeprom; Part Number: 24AA64T/SN; Component Kind: Standard; Component Type: Standard; Designator: 24AA64T/SN; Footprint: smd SOICN/8; Library Reference: 24AA64T/SN; Pin Count: 8
footprint smd SOICN/8
pins: 1, 2, 3, 4, 5, 6, 7, 8
text: EEPROM; 8Kx8; A0; VCC; A1; A2; SCL; WP; SDA; VSS

## 24AA64TE/SN
designator IC?
64K I²C cmos serial eeprom; Part Number: 24AA64TE/SN; Component Kind: Standard; Component Type: Standard; Designator: 24AA64TE/SN; Footprint: smd SOICN/8; Library Reference: 24AA64TE/SN; Pin Count: 8
footprint smd SOICN/8
pins: 1, 2, 3, 4, 5, 6, 7, 8
text: EEPROM; 8Kx8; A0; VCC; A1; A2; SCL; WP; SDA; VSS

## 24AA64TI/SN
designator IC?
64K I²C cmos serial eeprom; Part Number: 24AA64TI/SN; Component Kind: Standard; Component Type: Standard; Designator: 24AA64TI/SN; Footprint: smd SOICN/8; Library Reference: 24AA64TI/SN; Pin Count: 8
footprint smd SOICN/8
pins: 1, 2, 3, 4, 5, 6, 7, 8
text: EEPROM; 8Kx8; A0; VCC; A1; A2; SCL; WP; SDA; VSS

## 24AA1025-I/P
designator IC?
1024K I2C cmos serial EEPROM
footprint icv DIP8-300
pins: 1 A0, 2 A1, 3 A2, 4 VSS, 5 SDA, 6 SCL, 7 WP, 8 VCC

## 24LC64/SN
designator IC?
64K I²C cmos serial eeprom; Part Number: 24LC64/SN; Component Kind: Standard; Component Type: Standard; Designator: 24LC64/SN; Footprint: smd SOICN/8; Library Reference: 24LC64/SN; Pin Count: 8
footprint smd SOICN/8
pins: 1, 2, 3, 4, 5, 6, 7, 8
text: EEPROM; 8Kx8; A0; VCC; A1; A2; SCL; WP; SDA; VSS

## 24LC64E/SN
designator IC?
64K I²C cmos serial eeprom; Part Number: 24LC64E/SN; Component Kind: Standard; Component Type: Standard; Designator: 24LC64E/SN; Footprint: smd SOICN/8; Library Reference: 24LC64E/SN; Pin Count: 8
footprint smd SOICN/8
pins: 1, 2, 3, 4, 5, 6, 7, 8
text: EEPROM; 8Kx8; A0; VCC; A1; A2; SCL; WP; SDA; VSS

## 24LC64I/SN
designator IC?
64K I²C cmos serial eeprom; Part Number: 24LC64I/SN; Component Kind: Standard; Component Type: Standard; Designator: 24LC64I/SN; Footprint: smd SOICN/8; Library Reference: 24LC64I/SN; Pin Count: 8
footprint smd SOICN/8
pins: 1, 2, 3, 4, 5, 6, 7, 8
text: EEPROM; 8Kx8; A0; VCC; A1; A2; SCL; WP; SDA; VSS

## 24LC64T/SN
designator IC?
64K I²C cmos serial eeprom; Part Number: 24LC64T/SN; Component Kind: Standard; Component Type: Standard; Designator: 24LC64T/SN; Footprint: smd SOICN/8; Library Reference: 24LC64T/SN; Pin Count: 8
footprint smd SOICN/8
pins: 1, 2, 3, 4, 5, 6, 7, 8
text: EEPROM; 8Kx8; A0; VCC; A1; A2; SCL; WP; SDA; VSS

## 24LC64TE/SN
designator IC?
64K I²C cmos serial eeprom; Part Number: 24LC64TE/SN; Component Kind: Standard; Component Type: Standard; Designator: 24LC64TE/SN; Footprint: smd SOICN/8; Library Reference: 24LC64TE/SN; Pin Count: 8
footprint smd SOICN/8
pins: 1, 2, 3, 4, 5, 6, 7, 8
text: EEPROM; 8Kx8; A0; VCC; A1; A2; SCL; WP; SDA; VSS

## 24LC64TI/SN
designator IC?
64K I²C cmos serial eeprom; Part Number: 24LC64TI/SN; Component Kind: Standard; Component Type: Standard; Designator: 24LC64TI/SN; Footprint: smd SOICN/8; Library Reference: 24LC64TI/SN; Pin Count: 8
footprint smd SOICN/8
pins: 1, 2, 3, 4, 5, 6, 7, 8
text: EEPROM; 8Kx8; A0; VCC; A1; A2; SCL; WP; SDA; VSS

## 25LC128-I/P
designator IC?
128K SPI Bus Serial EEPROM
footprint icv DIP8-300
pins: 1 'CS', 2 SO, 3 'WP', 4 VSS, 5 SI, 6 SCK, 7 'HOLD', 8 VCC

## 93LC46/SN
designator IC?
1K microwire compatible serial EEPROM
footprint smd SOICN/8
pins: 1 CS, 2 CLK, 3 DI, 4 DO, 5 VSS, 6 ORG, 7 NU, 8 VCC

## 93LC46B/P
designator IC?
1K microwire compatible serial EEPROM
footprint icv DIP8-300
pins: 1 CS, 2 CLK, 3 DI, 4 DO, 5 VSS, 6 ORG, 7 NC, 8 VCC

## AD664AD-BIP
designator IC?
monolithic 12-bit quad DAC; Part Number: AD664AD-BIP; Component Kind: Standard; Component Type: Standard; Designator: AD664AD-BIP; Footprint: icv DIP28-600; Library Reference: AD664AD-BIP; Pin Count: 28
footprint icv DIP28-600
pins: 1 VREFIN, 2 VOC, 3 VOD, 4 'CS', 5 DS0, 6 DS1, 7 DGND, 8 'RST', 9 DB0, 10 DB1, 11 DB2, 12 DB3, 13 DB4, 14 DB5, 15 DB6, 16 DB7, 17 DB8, 18 DB9, 19 DB10, 20 DB11, 21 VLL, 22 'RD', 23 'LS', 24 AGND, 25 VCC, 26 VEE, 27 VOA, 28 VOB

## AD664JNZ-BIP
designator IC?
monolithic 12-bit quad DAC
footprint icv DIP28-600
pins: 1 VREFIN, 2 VOC, 3 VOD, 4 'CS', 5 DS0, 6 DS1, 7 DGND, 8 'RST', 9 DB0, 10 DB1, 11 DB2, 12 DB3, 13 DB4, 14 DB5, 15 DB6, 16 DB7, 17 DB8, 18 DB9, 19 DB10, 20 DB11, 21 VLL, 22 'RD', 23 'LS', 24 AGND, 25 VCC, 26 VEE, 27 VOA, 28 VOB

## AD5063BRMZ
designator IC?, comment AD5063
16-Bit V  OUT  nano  DAC  SPI Interface 2.7 V to 5.5 V
footprint smd MSOP/10
pins: 1 DIN, 2 VDD, 3 VREF, 4 VOUT, 5 INV, 6 RFB, 7 AGND, 8 DACGND, 9 ~{SYNC}, 10 SCLK

## AD5293BRUZ
designator IC?  (value not drawn)
Single-Channel, 1024-Position,  1% R-Tolerance Digital Potentiometer
footprint smd TSSOP/14 (body 4.4 pitch 0.65)
pins: 1 ~{RESET}, 2 Vss, 3 A, 4 W, 5 B, 6 Vdd, 7 EXT_CAP, 8 Vlogic, 9 GND, 10 Din, 11 SCLK, 12 ~{SYNC}, 13 SDO, 14 RDY

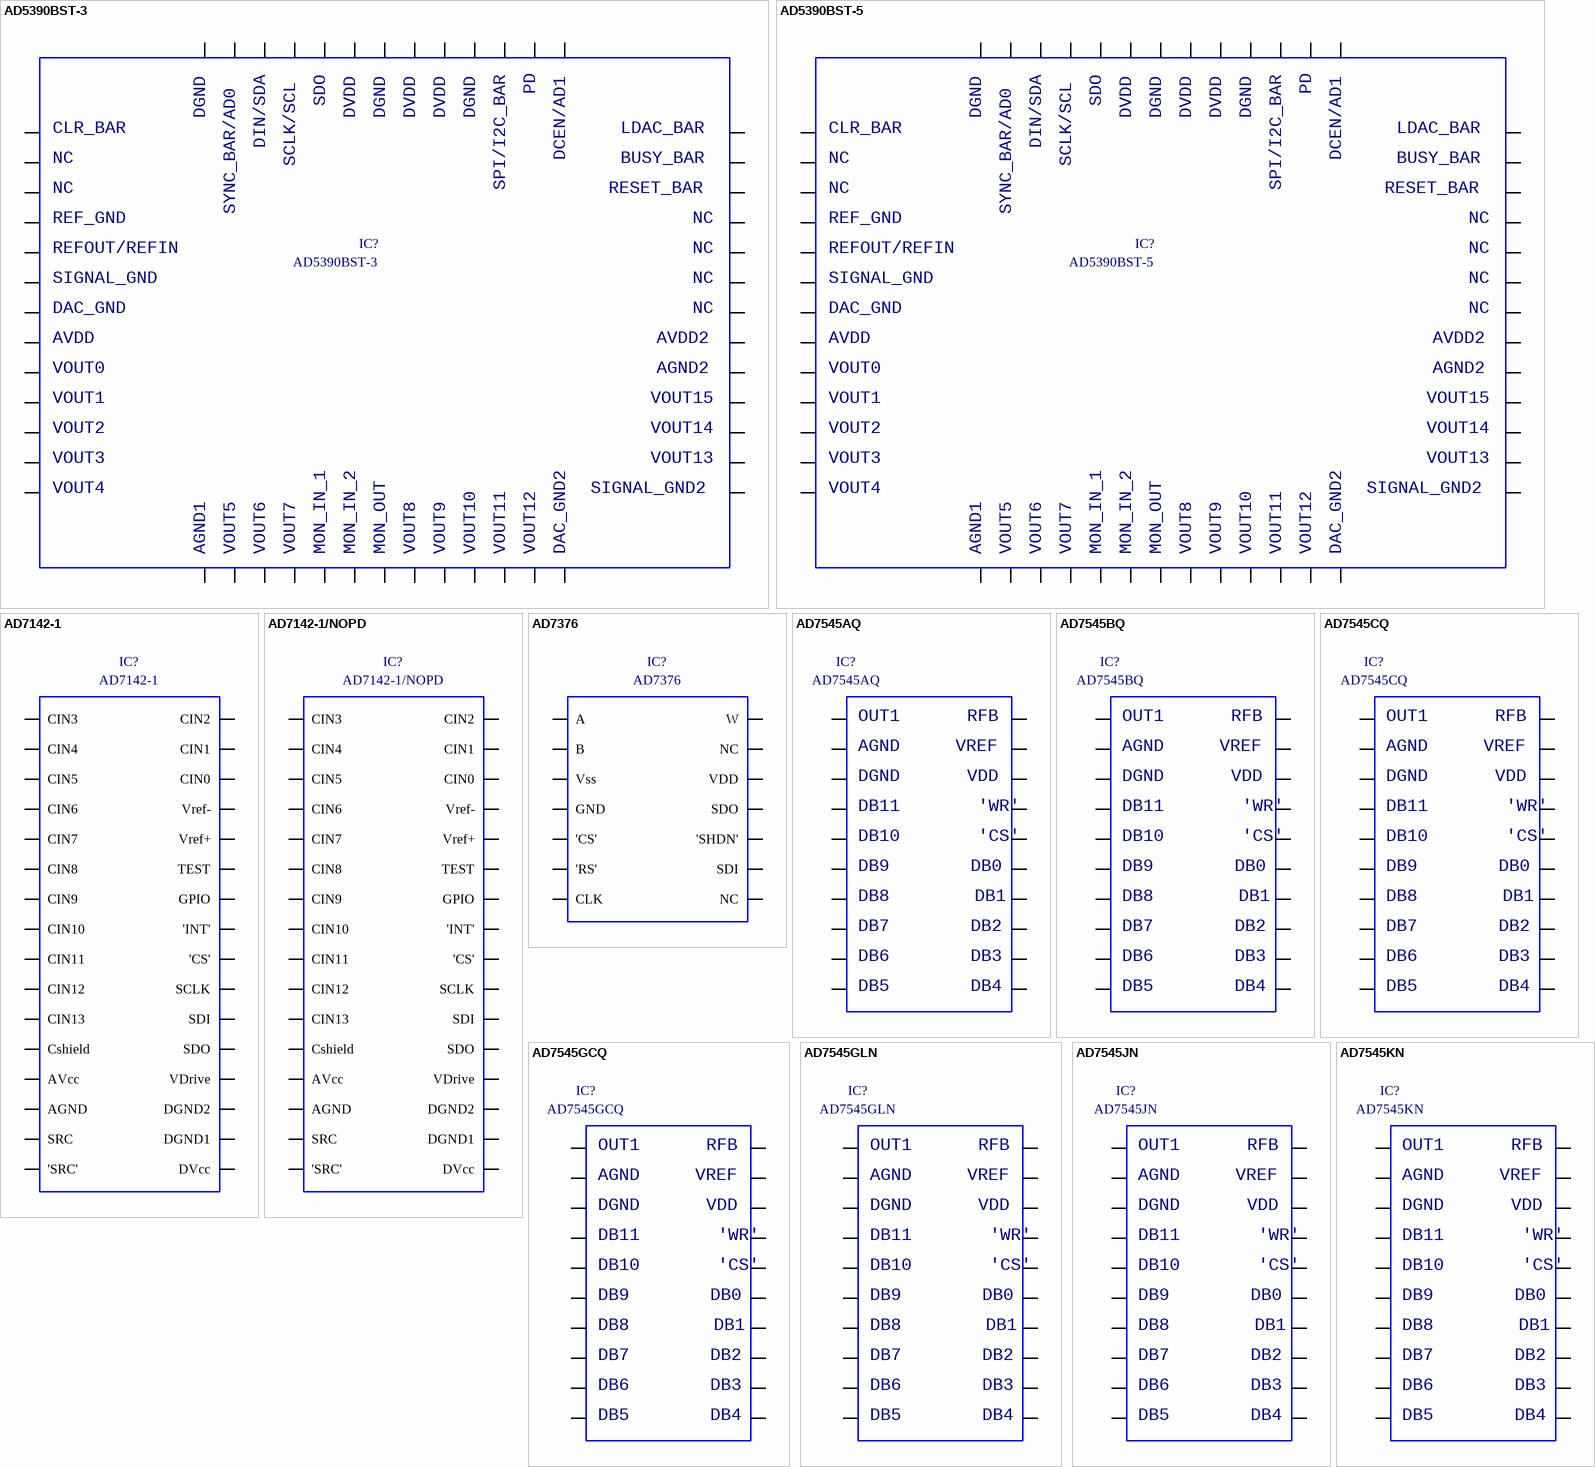
[diagram p142: symbols AD5390BST-3 to AD7545KN]

## AD5390BST-3
designator IC?
3 V/5 V, Serial Input, Single-Supply, 12-/14-Bit Voltage Output DAC
footprint smd LQFP/52
pins: 1, 2, 3, 4, 5, 6, 7, 8, 9, 10, 11, 12, 13, 14, 15, 16, 17, 18, 19, 20, 21, 22, 23, 24, 25, 26, 27, 28, 29, 30, 31, 32, 33, 34, 35, 36, 37, 38, 39, 40, 41, 42, 43, 44, 45, 46, 47, 48, 49, 50, 51, 52
text: PD; SDO; DGND; DVDD; CLR_BAR; LDAC_BAR; DIN/SDA; DCEN/AD1; NC; SCLK/SCL; BUSY_BAR; SPI/I2C_BAR; RESET_BAR; SYNC_BAR/AD0; REF_GND; REFOUT/REFIN; SIGNAL_GND; DAC_GND; AVDD; AVDD2; VOUT0; AGND2; VOUT1; VOUT15; VOUT2; VOUT14; VOUT3; VOUT13; VOUT4; SIGNAL_GND2; AGND1; VOUT5; VOUT6; VOUT7; MON_IN_1; MON_IN_2; MON_OUT; VOUT8; VOUT9; VOUT10; VOUT11; VOUT12; DAC_GND2

## AD5390BST-5
designator IC?
3 V/5 V, Serial Input, Single-Supply, 12-/14-Bit Voltage Output DAC; Part Number: AD5390BST-5; Component Kind: Standard; Component Type: Standard; Designator: AD5390BST-5; Footprint: smd LQFP/52; Library Reference: AD5390BST-5; Pin Count: 52
footprint smd LQFP/52
pins: 1, 2, 3, 4, 5, 6, 7, 8, 9, 10, 11, 12, 13, 14, 15, 16, 17, 18, 19, 20, 21, 22, 23, 24, 25, 26, 27, 28, 29, 30, 31, 32, 33, 34, 35, 36, 37, 38, 39, 40, 41, 42, 43, 44, 45, 46, 47, 48, 49, 50, 51, 52
text: PD; SDO; DGND; DVDD; CLR_BAR; LDAC_BAR; DIN/SDA; DCEN/AD1; NC; SCLK/SCL; BUSY_BAR; SPI/I2C_BAR; RESET_BAR; SYNC_BAR/AD0; REF_GND; REFOUT/REFIN; SIGNAL_GND; DAC_GND; AVDD; AVDD2; VOUT0; AGND2; VOUT1; VOUT15; VOUT2; VOUT14; VOUT3; VOUT13; VOUT4; SIGNAL_GND2; AGND1; VOUT5; VOUT6; VOUT7; MON_IN_1; MON_IN_2; MON_OUT; VOUT8; VOUT9; VOUT10; VOUT11; VOUT12; DAC_GND2

## AD7142-1
designator IC?
Programmable controller for capacitance touch sensors
footprint smd VQ_LFCSP/32
pins: 1 CIN3, 2 CIN4, 3 CIN5, 4 CIN6, 5 CIN7, 6 CIN8, 7 CIN9, 8 CIN10, 9 CIN11, 10 CIN12, 11 CIN13, 12 Cshield, 13 AVcc, 14 AGND, 15 SRC, 16 'SRC', 17 DVcc, 18 DGND1, 19 DGND2, 20 VDrive, 21 SDO, 22 SDI, 23 SCLK, 24 'CS', 25 'INT', 26 GPIO, 27 TEST, 28 Vref+, 29 Vref-, 30 CIN0, 31 CIN1, 32 CIN2

## AD7142-1/NOPD
designator IC?
Programmable controller for capacitance touch sensors
footprint smd VQ_LFCSP/32 NOPD
pins: 1 CIN3, 2 CIN4, 3 CIN5, 4 CIN6, 5 CIN7, 6 CIN8, 7 CIN9, 8 CIN10, 9 CIN11, 10 CIN12, 11 CIN13, 12 Cshield, 13 AVcc, 14 AGND, 15 SRC, 16 'SRC', 17 DVcc, 18 DGND1, 19 DGND2, 20 VDrive, 21 SDO, 22 SDI, 23 SCLK, 24 'CS', 25 'INT', 26 GPIO, 27 TEST, 28 Vref+, 29 Vref-, 30 CIN0, 31 CIN1, 32 CIN2

## AD7376
designator IC?
Digital potentiometer
footprint smd TSSOP/14 (body 4.4 pitch 0.65)
pins: 1 A, 2 B, 3 Vss, 4 GND, 5 'CS', 6 'RS', 7 CLK, 8 NC, 9 SDI, 10 'SHDN', 11 SDO, 12 VDD, 13 NC, 14 W

## AD7545AQ
designator IC?
12-bit cmos buffered multiplying D/A converter; Part Number: AD7545AQ; Component Kind: Standard; Component Type: Standard; Designator: AD7545AQ; Footprint: icv DIP20-300; Library Reference: AD7545AQ; Pin Count: 20
footprint icv DIP20-300
pins: 1, 2, 3, 4, 5, 6, 7, 8, 9, 10, 11, 12, 13, 14, 15, 16, 17, 18, 19, 20
text: OUT1; RFB; AGND; VREF; DGND; VDD; DB11; 'WR'; DB10; 'CS'; DB9; DB0; DB8; DB1; DB7; DB2; DB6; DB3; DB5; DB4

## AD7545BQ
designator IC?
12-bit cmos buffered multiplying D/A converter; Part Number: AD7545BQ; Component Kind: Standard; Component Type: Standard; Designator: AD7545BQ; Footprint: icv DIP20-300; Library Reference: AD7545BQ; Pin Count: 20
footprint icv DIP20-300
pins: 1, 2, 3, 4, 5, 6, 7, 8, 9, 10, 11, 12, 13, 14, 15, 16, 17, 18, 19, 20
text: OUT1; RFB; AGND; VREF; DGND; VDD; DB11; 'WR'; DB10; 'CS'; DB9; DB0; DB8; DB1; DB7; DB2; DB6; DB3; DB5; DB4